# Altium integrated library Lattice Semiconductor ispMACH 4000ZE.IntLib: 56 symbols (part 2 of 3)
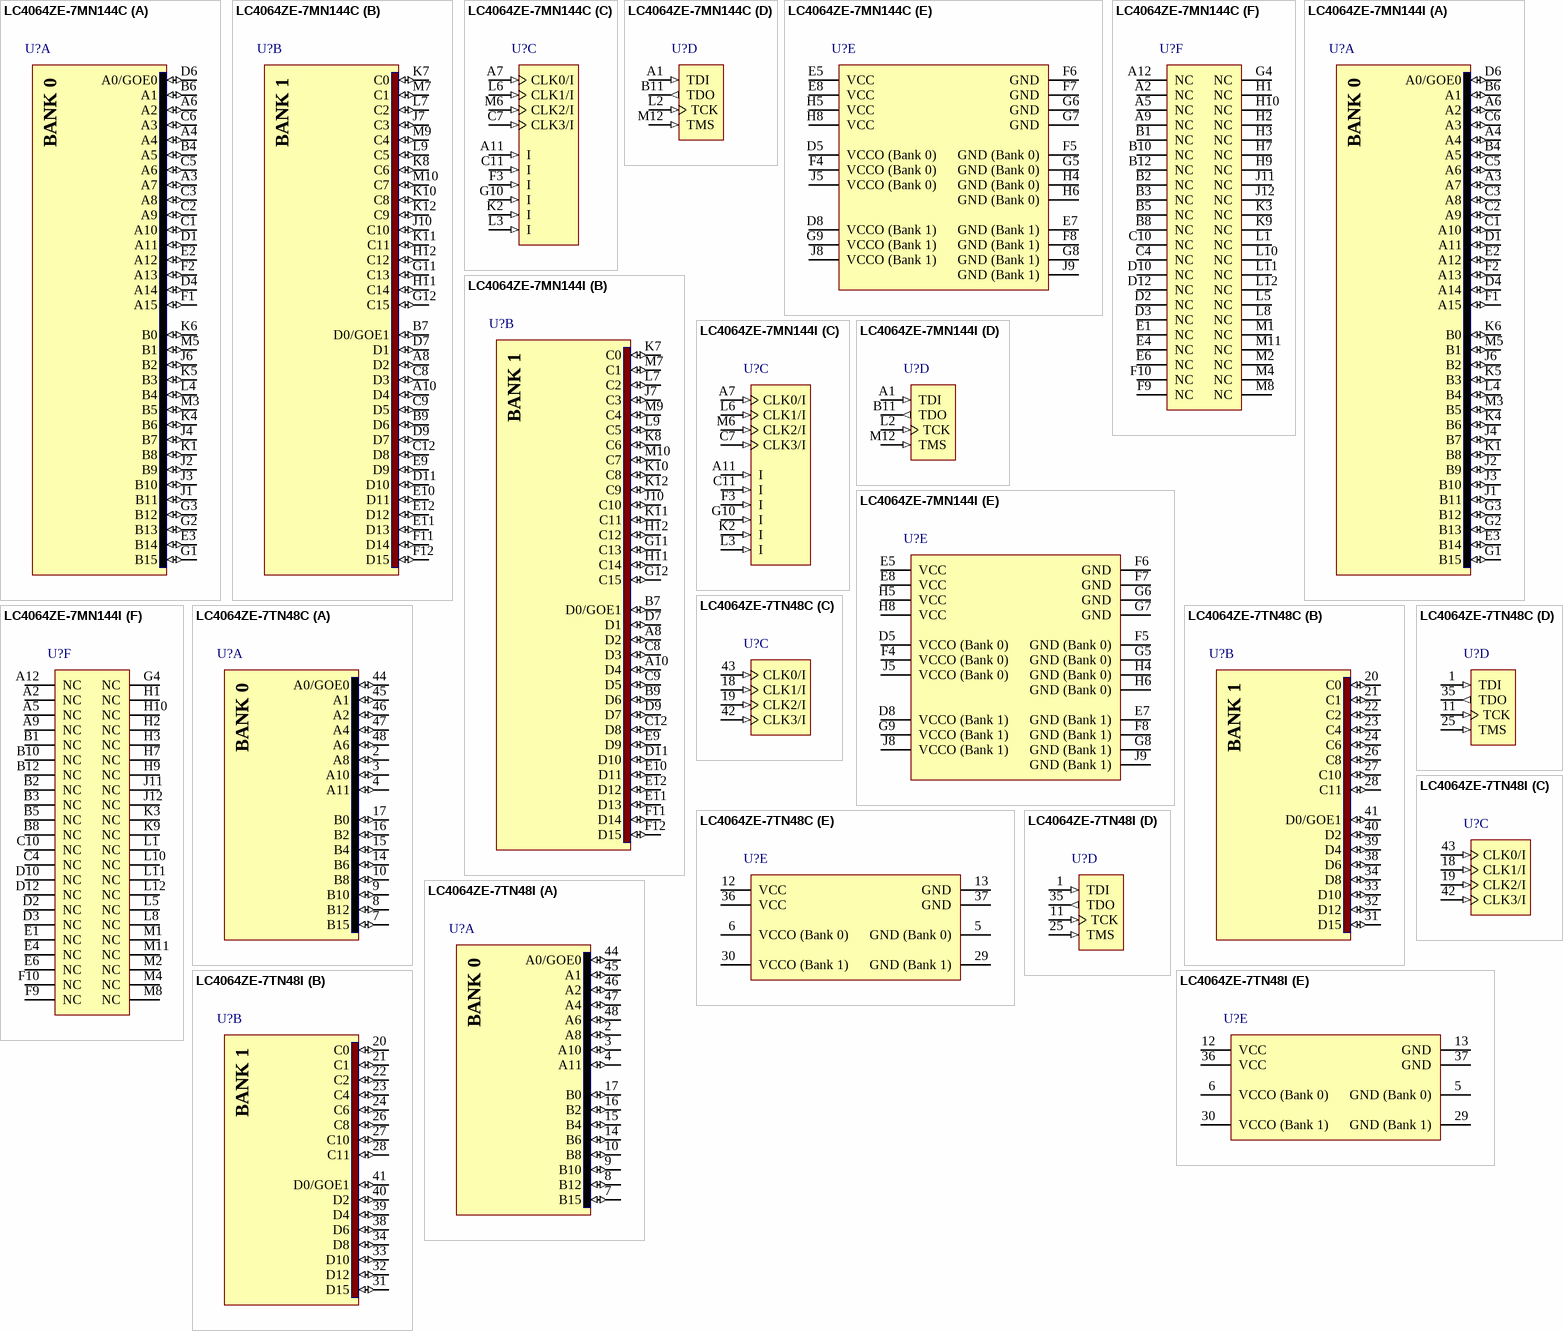
[diagram p15: symbols LC4064ZE-7MN144C to LC4064ZE-7TN48I]

## LC4064ZE-7MN144C
designator U?
ispMACH 4000ZE Ultra Low Power PLD, 1.8V, 64 User I/Os, 144-Pin csBGA, 7.5ns, Commercial Grade, Pb-Free; DatasheetVersion: ver01.4, May-2009; PackageVersion: ver02.6, Nov-2010; PackageReference: csBGA144; PackageDescription: 144-Ball Chip Scale Ball Grid Array (csBGA144); ComponentLink1Description: Manufacturer URL; ComponentLink1URL: http://www.latticesemi.com/; ComponentLink2Description: Datasheet; ComponentLink2URL: http://www.latticesemi.com/documents/DS1022.pdf; ComponentLink3Description: Package Specification; ComponentLink3URL: http://www.latticesemi.com/lit/docs/package/pkg.pdf
footprint csBGA144 (BGA, 144-Leads, Body 7x7mm, Pitch 0.5mm)
part A pins: A3 A7 (io), A4 (io), A6 A2 (io), B4 A5 (io), B6 A1 (io), C1 A10 (io), C2 A9 (io), C3 A8 (io), C5 A6 (io), C6 A3 (io), D1 A11 (io), D4 A14 (io), D6 A0/GOE0 (io), E2 A12 (io), E3 B14 (io), F1 A15 (io), F2 A13 (io), G1 B15 (io), G2 B13 (io), G3 B12 (io), J1 B11 (io), J2 B9 (io), J3 B10 (io), J4 B7 (io), J6 B2 (io), K1 B8 (io), K4 B6 (io), K5 B3 (io), K6 B0 (io), L4 B4 (io), M3 B5 (io), M5 B1 (io)
part B pins: A8 D2 (io), A10 D4 (io), B7 D0/GOE1 (io), B9 D6 (io), C8 D3 (io), C9 D5 (io), C12 D8 (io), D7 D1 (io), D9 D7 (io), D11 D10 (io), E9 D9 (io), E10 D11 (io), E11 D13 (io), E12 D12 (io), F11 D14 (io), F12 D15 (io), G11 C13 (io), G12 C15 (io), H11 C14 (io), H12 C12 (io), J7 C3 (io), J10 C10 (io), K7 C0 (io), K8 C6 (io), K10 C8 (io), K11 C11 (io), K12 C9 (io), L7 C2 (io), L9 C5 (io), M7 C1 (io), M9 C4 (io), M10 C7 (io)
part C pins: A7 CLK0/I (in), A11 I (in), C7 CLK3/I (in), C11 I (in), F3 I (in), G10 I (in), K2 I (in), L3 I (in), L6 CLK1/I (in), M6 CLK2/I (in)
part D pins: A1 TDI (in), B11 TDO (out), L2 TCK (in), M12 TMS (in)
part E pins: D5 VCCO (Bank 0) (power), D8 VCCO (Bank 1) (power), E5 VCC (power), E7 GND (Bank 1) (power), E8 VCC (power), F4 VCCO (Bank 0) (power), F5 GND (Bank 0) (power), F6 GND (power), F7 GND (power), F8 GND (Bank 1) (power), G5 GND (Bank 0) (power), G6 GND (power), G7 GND (power), G8 GND (Bank 1) (power), G9 VCCO (Bank 1) (power), H4 GND (Bank 0) (power), H5 VCC (power), H6 GND (Bank 0) (power), H8 VCC (power), J5 VCCO (Bank 0) (power), J8 VCCO (Bank 1) (power), J9 GND (Bank 1) (power)
part F pins: A2 NC, A5 NC, A9 NC, A12 NC, B1 NC, B2 NC, B3 NC, B5 NC, B8 NC, B10 NC, B12 NC, C4 NC, C10 NC, D2 NC, D3 NC, D10 NC, D12 NC, E1 NC, E4 NC, E6 NC, F9 NC, F10 NC, G4 NC, H1 NC, H2 NC, H3 NC, H7 NC, H9 NC, H10 NC, J11 NC, J12 NC, K3 NC, K9 NC, L1 NC, L5 NC, L8 NC, L10 NC, L11 NC, L12 NC, M1 NC, M2 NC, M4 NC, M8 NC, M11 NC
part A text: BANK 0
part B text: BANK 1

## LC4064ZE-7MN144I
designator U?
ispMACH 4000ZE Ultra Low Power PLD, 1.8V, 64 User I/Os, 144-Pin csBGA, 7.5ns, Industrial Grade, Pb-Free; DatasheetVersion: ver01.4, May-2009; PackageVersion: ver02.6, Nov-2010; PackageReference: csBGA144; PackageDescription: 144-Ball Chip Scale Ball Grid Array (csBGA144); ComponentLink1Description: Manufacturer URL; ComponentLink1URL: http://www.latticesemi.com/; ComponentLink2Description: Datasheet; ComponentLink2URL: http://www.latticesemi.com/documents/DS1022.pdf; ComponentLink3Description: Package Specification; ComponentLink3URL: http://www.latticesemi.com/lit/docs/package/pkg.pdf
footprint csBGA144 (BGA, 144-Leads, Body 7x7mm, Pitch 0.5mm)
part A pins: A3 A7 (io), A4 (io), A6 A2 (io), B4 A5 (io), B6 A1 (io), C1 A10 (io), C2 A9 (io), C3 A8 (io), C5 A6 (io), C6 A3 (io), D1 A11 (io), D4 A14 (io), D6 A0/GOE0 (io), E2 A12 (io), E3 B14 (io), F1 A15 (io), F2 A13 (io), G1 B15 (io), G2 B13 (io), G3 B12 (io), J1 B11 (io), J2 B9 (io), J3 B10 (io), J4 B7 (io), J6 B2 (io), K1 B8 (io), K4 B6 (io), K5 B3 (io), K6 B0 (io), L4 B4 (io), M3 B5 (io), M5 B1 (io)
part B pins: A8 D2 (io), A10 D4 (io), B7 D0/GOE1 (io), B9 D6 (io), C8 D3 (io), C9 D5 (io), C12 D8 (io), D7 D1 (io), D9 D7 (io), D11 D10 (io), E9 D9 (io), E10 D11 (io), E11 D13 (io), E12 D12 (io), F11 D14 (io), F12 D15 (io), G11 C13 (io), G12 C15 (io), H11 C14 (io), H12 C12 (io), J7 C3 (io), J10 C10 (io), K7 C0 (io), K8 C6 (io), K10 C8 (io), K11 C11 (io), K12 C9 (io), L7 C2 (io), L9 C5 (io), M7 C1 (io), M9 C4 (io), M10 C7 (io)
part C pins: A7 CLK0/I (in), A11 I (in), C7 CLK3/I (in), C11 I (in), F3 I (in), G10 I (in), K2 I (in), L3 I (in), L6 CLK1/I (in), M6 CLK2/I (in)
part D pins: A1 TDI (in), B11 TDO (out), L2 TCK (in), M12 TMS (in)
part E pins: D5 VCCO (Bank 0) (power), D8 VCCO (Bank 1) (power), E5 VCC (power), E7 GND (Bank 1) (power), E8 VCC (power), F4 VCCO (Bank 0) (power), F5 GND (Bank 0) (power), F6 GND (power), F7 GND (power), F8 GND (Bank 1) (power), G5 GND (Bank 0) (power), G6 GND (power), G7 GND (power), G8 GND (Bank 1) (power), G9 VCCO (Bank 1) (power), H4 GND (Bank 0) (power), H5 VCC (power), H6 GND (Bank 0) (power), H8 VCC (power), J5 VCCO (Bank 0) (power), J8 VCCO (Bank 1) (power), J9 GND (Bank 1) (power)
part F pins: A2 NC, A5 NC, A9 NC, A12 NC, B1 NC, B2 NC, B3 NC, B5 NC, B8 NC, B10 NC, B12 NC, C4 NC, C10 NC, D2 NC, D3 NC, D10 NC, D12 NC, E1 NC, E4 NC, E6 NC, F9 NC, F10 NC, G4 NC, H1 NC, H2 NC, H3 NC, H7 NC, H9 NC, H10 NC, J11 NC, J12 NC, K3 NC, K9 NC, L1 NC, L5 NC, L8 NC, L10 NC, L11 NC, L12 NC, M1 NC, M2 NC, M4 NC, M8 NC, M11 NC
part A text: BANK 0
part B text: BANK 1

## LC4064ZE-7TN48C
designator U?
ispMACH 4000ZE Ultra Low Power PLD, 1.8V, 32 User I/Os, 48-Pin TQFP, 7.5ns, Commercial Grade, Pb-Free; DatasheetVersion: ver01.4, May-2009; PackageVersion: ver02.6, Nov-2010; PackageReference: TQFP48(1mm); PackageDescription: 48-Pin Thin Quad Flat Pack 1.0 mm Thick (TQFP48); ComponentLink1Description: Manufacturer URL; ComponentLink1URL: http://www.latticesemi.com/; ComponentLink2Description: Datasheet; ComponentLink2URL: http://www.latticesemi.com/documents/DS1022.pdf; ComponentLink3Description: Package Specification; ComponentLink3URL: http://www.latticesemi.com/lit/docs/package/pkg.pdf
footprint TQFP48(1mm)_N (Thin QFP, 48-Leads, Body 7x7mm, Pitch 0.5mm, IPC Medium Density)
footprint TQFP48(1mm)_L (Thin QFP, 48-Leads, Body 7x7mm, Pitch 0.5mm, IPC High Density)
footprint TQFP48(1mm)_M (Thin QFP, 48-Leads, Body 7x7mm, Pitch 0.5mm, IPC Low Density)
part A pins: 2 A8 (io), 3 A10 (io), 4 A11 (io), 7 B15 (io), 8 B12 (io), 9 B10 (io), 10 B8 (io), 14 B6 (io), 15 B4 (io), 16 B2 (io), 17 B0 (io), 44 A0/GOE0 (io), 45 A1 (io), 46 A2 (io), 47 A4 (io), 48 A6 (io)
part B pins: 20 C0 (io), 21 C1 (io), 22 C2 (io), 23 C4 (io), 24 C6 (io), 26 C8 (io), 27 C10 (io), 28 C11 (io), 31 D15 (io), 32 D12 (io), 33 D10 (io), 34 D8 (io), 38 D6 (io), 39 D4 (io), 40 D2 (io), 41 D0/GOE1 (io)
part C pins: 18 CLK1/I (in), 19 CLK2/I (in), 42 CLK3/I (in), 43 CLK0/I (in)
part D pins: 1 TDI (in), 11 TCK (in), 25 TMS (in), 35 TDO (out)
part E pins: 5 GND (Bank 0) (power), 6 VCCO (Bank 0) (power), 12 VCC (power), 13 GND (power), 29 GND (Bank 1) (power), 30 VCCO (Bank 1) (power), 36 VCC (power), 37 GND (power)
part A text: BANK 0
part B text: BANK 1

## LC4064ZE-7TN48I
designator U?
ispMACH 4000ZE Ultra Low Power PLD, 1.8V, 32 User I/Os, 48-Pin TQFP, 7.5ns, Industrial Grade, Pb-Free; DatasheetVersion: ver01.4, May-2009; PackageVersion: ver02.6, Nov-2010; PackageReference: TQFP48(1mm); PackageDescription: 48-Pin Thin Quad Flat Pack 1.0 mm Thick (TQFP48); ComponentLink1Description: Manufacturer URL; ComponentLink1URL: http://www.latticesemi.com/; ComponentLink2Description: Datasheet; ComponentLink2URL: http://www.latticesemi.com/documents/DS1022.pdf; ComponentLink3Description: Package Specification; ComponentLink3URL: http://www.latticesemi.com/lit/docs/package/pkg.pdf
footprint TQFP48(1mm)_N (Thin QFP, 48-Leads, Body 7x7mm, Pitch 0.5mm, IPC Medium Density)
footprint TQFP48(1mm)_L (Thin QFP, 48-Leads, Body 7x7mm, Pitch 0.5mm, IPC High Density)
footprint TQFP48(1mm)_M (Thin QFP, 48-Leads, Body 7x7mm, Pitch 0.5mm, IPC Low Density)
part A pins: 2 A8 (io), 3 A10 (io), 4 A11 (io), 7 B15 (io), 8 B12 (io), 9 B10 (io), 10 B8 (io), 14 B6 (io), 15 B4 (io), 16 B2 (io), 17 B0 (io), 44 A0/GOE0 (io), 45 A1 (io), 46 A2 (io), 47 A4 (io), 48 A6 (io)
part B pins: 20 C0 (io), 21 C1 (io), 22 C2 (io), 23 C4 (io), 24 C6 (io), 26 C8 (io), 27 C10 (io), 28 C11 (io), 31 D15 (io), 32 D12 (io), 33 D10 (io), 34 D8 (io), 38 D6 (io), 39 D4 (io), 40 D2 (io), 41 D0/GOE1 (io)
part C pins: 18 CLK1/I (in), 19 CLK2/I (in), 42 CLK3/I (in), 43 CLK0/I (in)
part D pins: 1 TDI (in), 11 TCK (in), 25 TMS (in), 35 TDO (out)
part E pins: 5 GND (Bank 0) (power), 6 VCCO (Bank 0) (power), 12 VCC (power), 13 GND (power), 29 GND (Bank 1) (power), 30 VCCO (Bank 1) (power), 36 VCC (power), 37 GND (power)
part A text: BANK 0
part B text: BANK 1

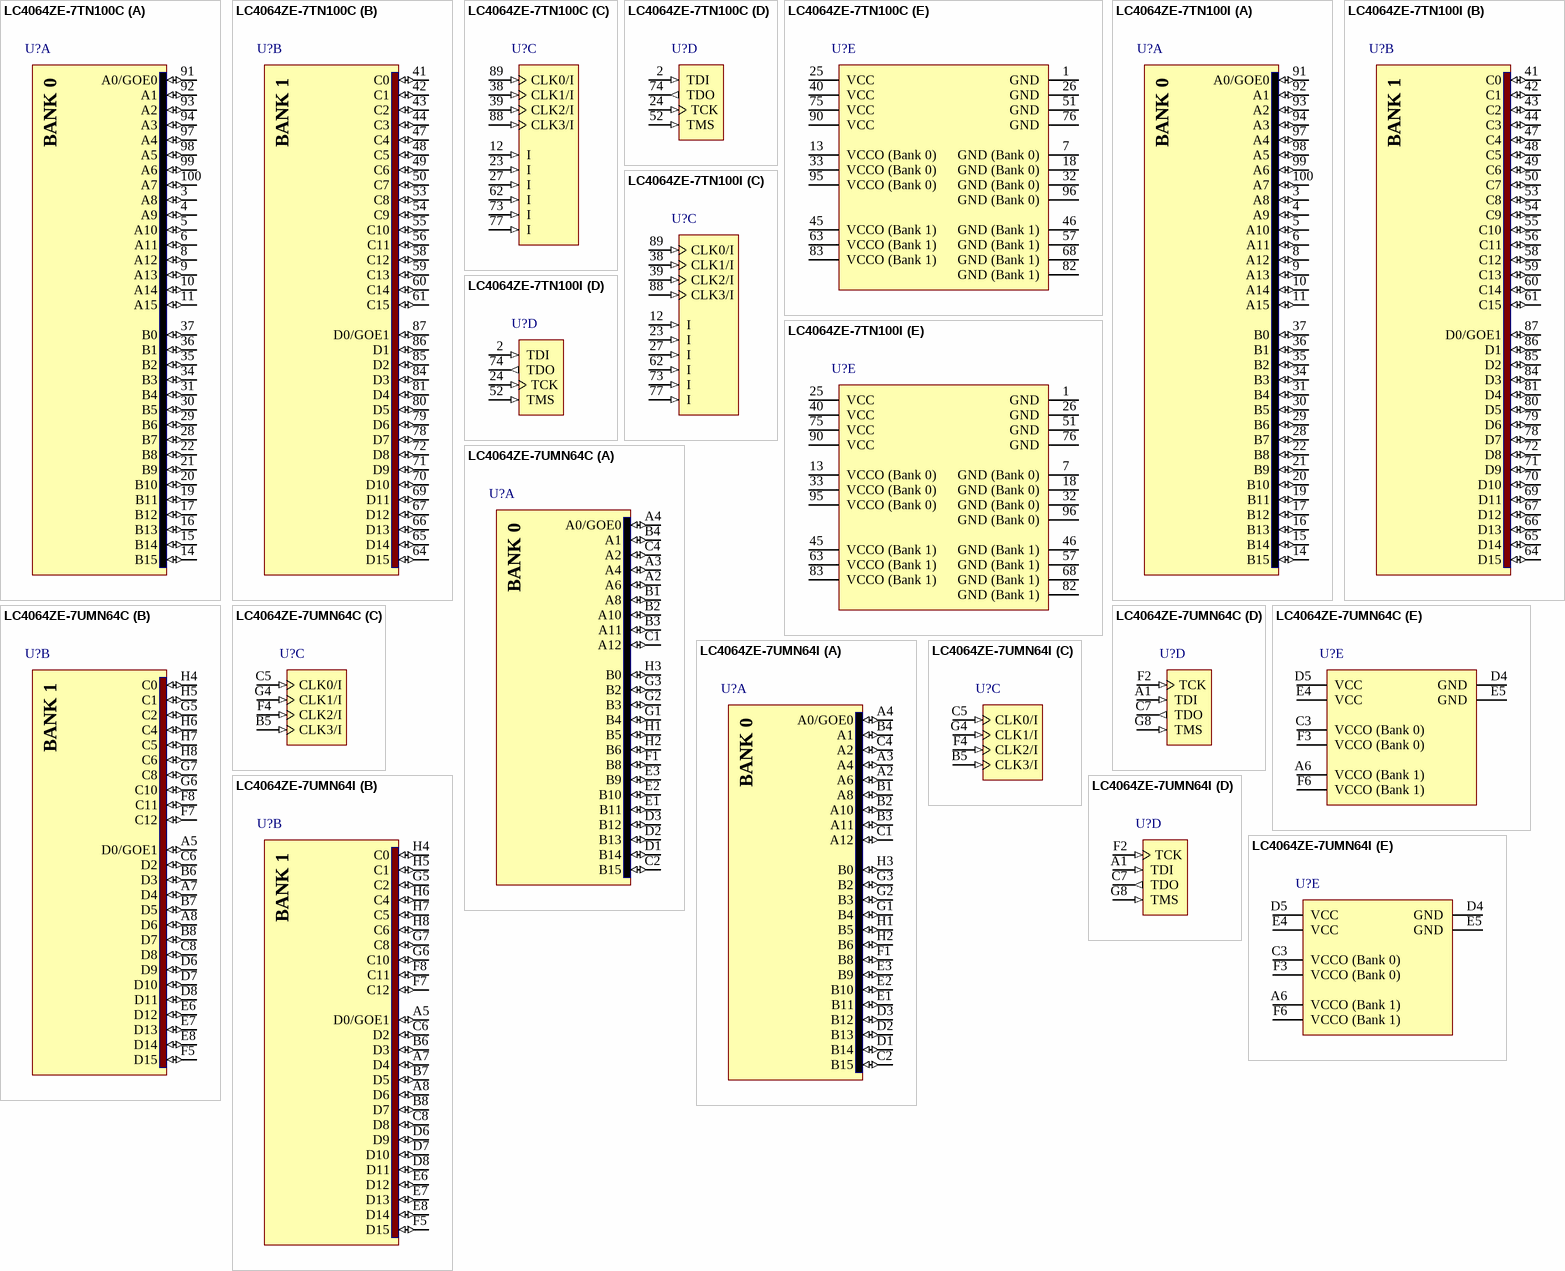
[diagram p6: symbols LC4064ZE-7TN100C to LC4064ZE-7UMN64I]

## LC4064ZE-7TN100C
designator U?
ispMACH 4000ZE Ultra Low Power PLD, 1.8V, 64 User I/Os, 100-Pin TQFP, 7.5ns, Commercial Grade, Pb-Free; DatasheetVersion: ver01.4, May-2009; PackageVersion: ver02.8, Jul-2011; PackageReference: TQFP100; PackageDescription: 100-Pin Thin Quad Flat Pack (TQFP100); Code_JEDEC: MS-026-BED; ComponentLink1Description: Manufacturer URL; ComponentLink1URL: http://www.latticesemi.com/; ComponentLink2Description: Datasheet; ComponentLink2URL: http://www.latticesemi.com/documents/DS1022.pdf; ComponentLink3Description: Package Specification; ComponentLink3URL: http://www.latticesemi.com/lit/docs/package/pkg.pdf
footprint TQFP100_N (Thin QFP, 100-Leads, Body 14x14mm, Pitch 0.5mm, IPC Medium Density)
footprint TQFP100_L (Thin QFP, 100-Leads, Body 14x14mm, Pitch 0.5mm, IPC High Density)
footprint TQFP100_M (Thin QFP, 100-Leads, Body 14x14mm, Pitch 0.5mm, IPC Low Density)
part A pins: 3 A8 (io), 4 A9 (io), 5 A10 (io), 6 A11 (io), 8 A12 (io), 9 A13 (io), 10 A14 (io), 11 A15 (io), 14 B15 (io), 15 B14 (io), 16 B13 (io), 17 B12 (io), 19 B11 (io), 20 B10 (io), 21 B9 (io), 22 B8 (io), 28 B7 (io), 29 B6 (io), 30 B5 (io), 31 B4 (io), 34 B3 (io), 35 B2 (io), 36 B1 (io), 37 B0 (io), 91 A0/GOE0 (io), 92 A1 (io), 93 A2 (io), 94 A3 (io), 97 A4 (io), 98 A5 (io), 99 A6 (io), 100 A7 (io)
part B pins: 41 C0 (io), 42 C1 (io), 43 C2 (io), 44 C3 (io), 47 C4 (io), 48 C5 (io), 49 C6 (io), 50 C7 (io), 53 C8 (io), 54 C9 (io), 55 C10 (io), 56 C11 (io), 58 C12 (io), 59 C13 (io), 60 C14 (io), 61 C15 (io), 64 D15 (io), 65 D14 (io), 66 D13 (io), 67 D12 (io), 69 D11 (io), 70 D10 (io), 71 D9 (io), 72 D8 (io), 78 D7 (io), 79 D6 (io), 80 D5 (io), 81 D4 (io), 84 D3 (io), 85 D2 (io), 86 D1 (io), 87 D0/GOE1 (io)
part C pins: 12 I (in), 23 I (in), 27 I (in), 38 CLK1/I (in), 39 CLK2/I (in), 62 I (in), 73 I (in), 77 I (in), 88 CLK3/I (in), 89 CLK0/I (in)
part D pins: 2 TDI (in), 24 TCK (in), 52 TMS (in), 74 TDO (out)
part E pins: 1 GND (power), 7 GND (Bank 0) (power), 13 VCCO (Bank 0) (power), 18 GND (Bank 0) (power), 25 VCC (power), 26 GND (power), 32 GND (Bank 0) (power), 33 VCCO (Bank 0) (power), 40 VCC (power), 45 VCCO (Bank 1) (power), 46 GND (Bank 1) (power), 51 GND (power), 57 GND (Bank 1) (power), 63 VCCO (Bank 1) (power), 68 GND (Bank 1) (power), 75 VCC (power), 76 GND (power), 82 GND (Bank 1) (power), 83 VCCO (Bank 1) (power), 90 VCC (power), 95 VCCO (Bank 0) (power), 96 GND (Bank 0) (power)
part A text: BANK 0
part B text: BANK 1

## LC4064ZE-7TN100I
designator U?
ispMACH 4000ZE Ultra Low Power PLD, 1.8V, 64 User I/Os, 100-Pin TQFP, 7.5ns, Industrial Grade, Pb-Free; DatasheetVersion: ver01.4, May-2009; PackageVersion: ver02.8, Jul-2011; PackageReference: TQFP100; PackageDescription: 100-Pin Thin Quad Flat Pack (TQFP100); Code_JEDEC: MS-026-BED; ComponentLink1Description: Manufacturer URL; ComponentLink1URL: http://www.latticesemi.com/; ComponentLink2Description: Datasheet; ComponentLink2URL: http://www.latticesemi.com/documents/DS1022.pdf; ComponentLink3Description: Package Specification; ComponentLink3URL: http://www.latticesemi.com/lit/docs/package/pkg.pdf
footprint TQFP100_N (Thin QFP, 100-Leads, Body 14x14mm, Pitch 0.5mm, IPC Medium Density)
footprint TQFP100_L (Thin QFP, 100-Leads, Body 14x14mm, Pitch 0.5mm, IPC High Density)
footprint TQFP100_M (Thin QFP, 100-Leads, Body 14x14mm, Pitch 0.5mm, IPC Low Density)
part A pins: 3 A8 (io), 4 A9 (io), 5 A10 (io), 6 A11 (io), 8 A12 (io), 9 A13 (io), 10 A14 (io), 11 A15 (io), 14 B15 (io), 15 B14 (io), 16 B13 (io), 17 B12 (io), 19 B11 (io), 20 B10 (io), 21 B9 (io), 22 B8 (io), 28 B7 (io), 29 B6 (io), 30 B5 (io), 31 B4 (io), 34 B3 (io), 35 B2 (io), 36 B1 (io), 37 B0 (io), 91 A0/GOE0 (io), 92 A1 (io), 93 A2 (io), 94 A3 (io), 97 A4 (io), 98 A5 (io), 99 A6 (io), 100 A7 (io)
part B pins: 41 C0 (io), 42 C1 (io), 43 C2 (io), 44 C3 (io), 47 C4 (io), 48 C5 (io), 49 C6 (io), 50 C7 (io), 53 C8 (io), 54 C9 (io), 55 C10 (io), 56 C11 (io), 58 C12 (io), 59 C13 (io), 60 C14 (io), 61 C15 (io), 64 D15 (io), 65 D14 (io), 66 D13 (io), 67 D12 (io), 69 D11 (io), 70 D10 (io), 71 D9 (io), 72 D8 (io), 78 D7 (io), 79 D6 (io), 80 D5 (io), 81 D4 (io), 84 D3 (io), 85 D2 (io), 86 D1 (io), 87 D0/GOE1 (io)
part C pins: 12 I (in), 23 I (in), 27 I (in), 38 CLK1/I (in), 39 CLK2/I (in), 62 I (in), 73 I (in), 77 I (in), 88 CLK3/I (in), 89 CLK0/I (in)
part D pins: 2 TDI (in), 24 TCK (in), 52 TMS (in), 74 TDO (out)
part E pins: 1 GND (power), 7 GND (Bank 0) (power), 13 VCCO (Bank 0) (power), 18 GND (Bank 0) (power), 25 VCC (power), 26 GND (power), 32 GND (Bank 0) (power), 33 VCCO (Bank 0) (power), 40 VCC (power), 45 VCCO (Bank 1) (power), 46 GND (Bank 1) (power), 51 GND (power), 57 GND (Bank 1) (power), 63 VCCO (Bank 1) (power), 68 GND (Bank 1) (power), 75 VCC (power), 76 GND (power), 82 GND (Bank 1) (power), 83 VCCO (Bank 1) (power), 90 VCC (power), 95 VCCO (Bank 0) (power), 96 GND (Bank 0) (power)
part A text: BANK 0
part B text: BANK 1

## LC4064ZE-7UMN64C
designator U?
ispMACH 4000ZE Ultra Low Power PLD, 1.8V, 48 User I/Os, 64-Pin ucBGA, 7.5ns, Commercial Grade, Pb-Free; DatasheetVersion: ver01.4, May-2009; PackageVersion: ver02.8, Jul-2011; PackageReference: ucBGA64; PackageDescription: 64-Ball ucBGA Package, 4 x 4 mm Body, 0.4 mm Pitch; ComponentLink1Description: Manufacturer URL; ComponentLink1URL: http://www.latticesemi.com/; ComponentLink2Description: Datasheet; ComponentLink2URL: http://www.latticesemi.com/documents/DS1022.pdf; ComponentLink3Description: Package Specification; ComponentLink3URL: http://www.latticesemi.com/lit/docs/package/pkg.pdf
footprint ucBGA64 (BGA, 64-Leads, Body 4x4mm, Pitch 0.4mm, Nominal Pad Dia. 0.2mm, Lattice Recommended)
part A pins: A2 A6 (io), A3 A4 (io), A4 A0/GOE0 (io), B1 A8 (io), B2 A10 (io), B3 A11 (io), B4 A1 (io), C1 A12 (io), C2 B15 (io), C4 A2 (io), D1 B14 (io), D2 B13 (io), D3 B12 (io), E1 B11 (io), E2 B10 (io), E3 B9 (io), F1 B8 (io), G1 B4 (io), G2 B3 (io), G3 B2 (io), H1 B5 (io), H2 B6 (io), H3 B0 (io)
part B pins: A5 D0/GOE1 (io), A7 D4 (io), A8 D6 (io), B6 D3 (io), B7 D5 (io), B8 D7 (io), C6 D2 (io), C8 D8 (io), D6 D9 (io), D7 D10 (io), D8 D11 (io), E6 D12 (io), E7 D13 (io), E8 D14 (io), F5 D15 (io), F7 C12 (io), F8 C11 (io), G5 C2 (io), G6 C10 (io), G7 C8 (io), H4 C0 (io), H5 C1 (io), H6 C4 (io), H7 C5 (io), H8 C6 (io)
part C pins: B5 CLK3/I (in), C5 CLK0/I (in), F4 CLK2/I (in), G4 CLK1/I (in)
part D pins: A1 TDI (in), C7 TDO (out), F2 TCK (in), G8 TMS (in)
part E pins: A6 VCCO (Bank 1) (power), C3 VCCO (Bank 0) (power), D4 GND (power), D5 VCC (power), E4 VCC (power), E5 GND (power), F3 VCCO (Bank 0) (power), F6 VCCO (Bank 1) (power)
part A text: BANK 0
part B text: BANK 1

## LC4064ZE-7UMN64I
designator U?
ispMACH 4000ZE Ultra Low Power PLD, 1.8V, 48 User I/Os, 64-Pin ucBGA, 7.5ns, Industrial Grade, Pb-Free; DatasheetVersion: ver01.4, May-2009; PackageVersion: ver02.8, Jul-2011; PackageReference: ucBGA64; PackageDescription: 64-Ball ucBGA Package, 4 x 4 mm Body, 0.4 mm Pitch; ComponentLink1Description: Manufacturer URL; ComponentLink1URL: http://www.latticesemi.com/; ComponentLink2Description: Datasheet; ComponentLink2URL: http://www.latticesemi.com/documents/DS1022.pdf; ComponentLink3Description: Package Specification; ComponentLink3URL: http://www.latticesemi.com/lit/docs/package/pkg.pdf
footprint ucBGA64 (BGA, 64-Leads, Body 4x4mm, Pitch 0.4mm, Nominal Pad Dia. 0.2mm, Lattice Recommended)
part A pins: A2 A6 (io), A3 A4 (io), A4 A0/GOE0 (io), B1 A8 (io), B2 A10 (io), B3 A11 (io), B4 A1 (io), C1 A12 (io), C2 B15 (io), C4 A2 (io), D1 B14 (io), D2 B13 (io), D3 B12 (io), E1 B11 (io), E2 B10 (io), E3 B9 (io), F1 B8 (io), G1 B4 (io), G2 B3 (io), G3 B2 (io), H1 B5 (io), H2 B6 (io), H3 B0 (io)
part B pins: A5 D0/GOE1 (io), A7 D4 (io), A8 D6 (io), B6 D3 (io), B7 D5 (io), B8 D7 (io), C6 D2 (io), C8 D8 (io), D6 D9 (io), D7 D10 (io), D8 D11 (io), E6 D12 (io), E7 D13 (io), E8 D14 (io), F5 D15 (io), F7 C12 (io), F8 C11 (io), G5 C2 (io), G6 C10 (io), G7 C8 (io), H4 C0 (io), H5 C1 (io), H6 C4 (io), H7 C5 (io), H8 C6 (io)
part C pins: B5 CLK3/I (in), C5 CLK0/I (in), F4 CLK2/I (in), G4 CLK1/I (in)
part D pins: A1 TDI (in), C7 TDO (out), F2 TCK (in), G8 TMS (in)
part E pins: A6 VCCO (Bank 1) (power), C3 VCCO (Bank 0) (power), D4 GND (power), D5 VCC (power), E4 VCC (power), E5 GND (power), F3 VCCO (Bank 0) (power), F6 VCCO (Bank 1) (power)
part A text: BANK 0
part B text: BANK 1

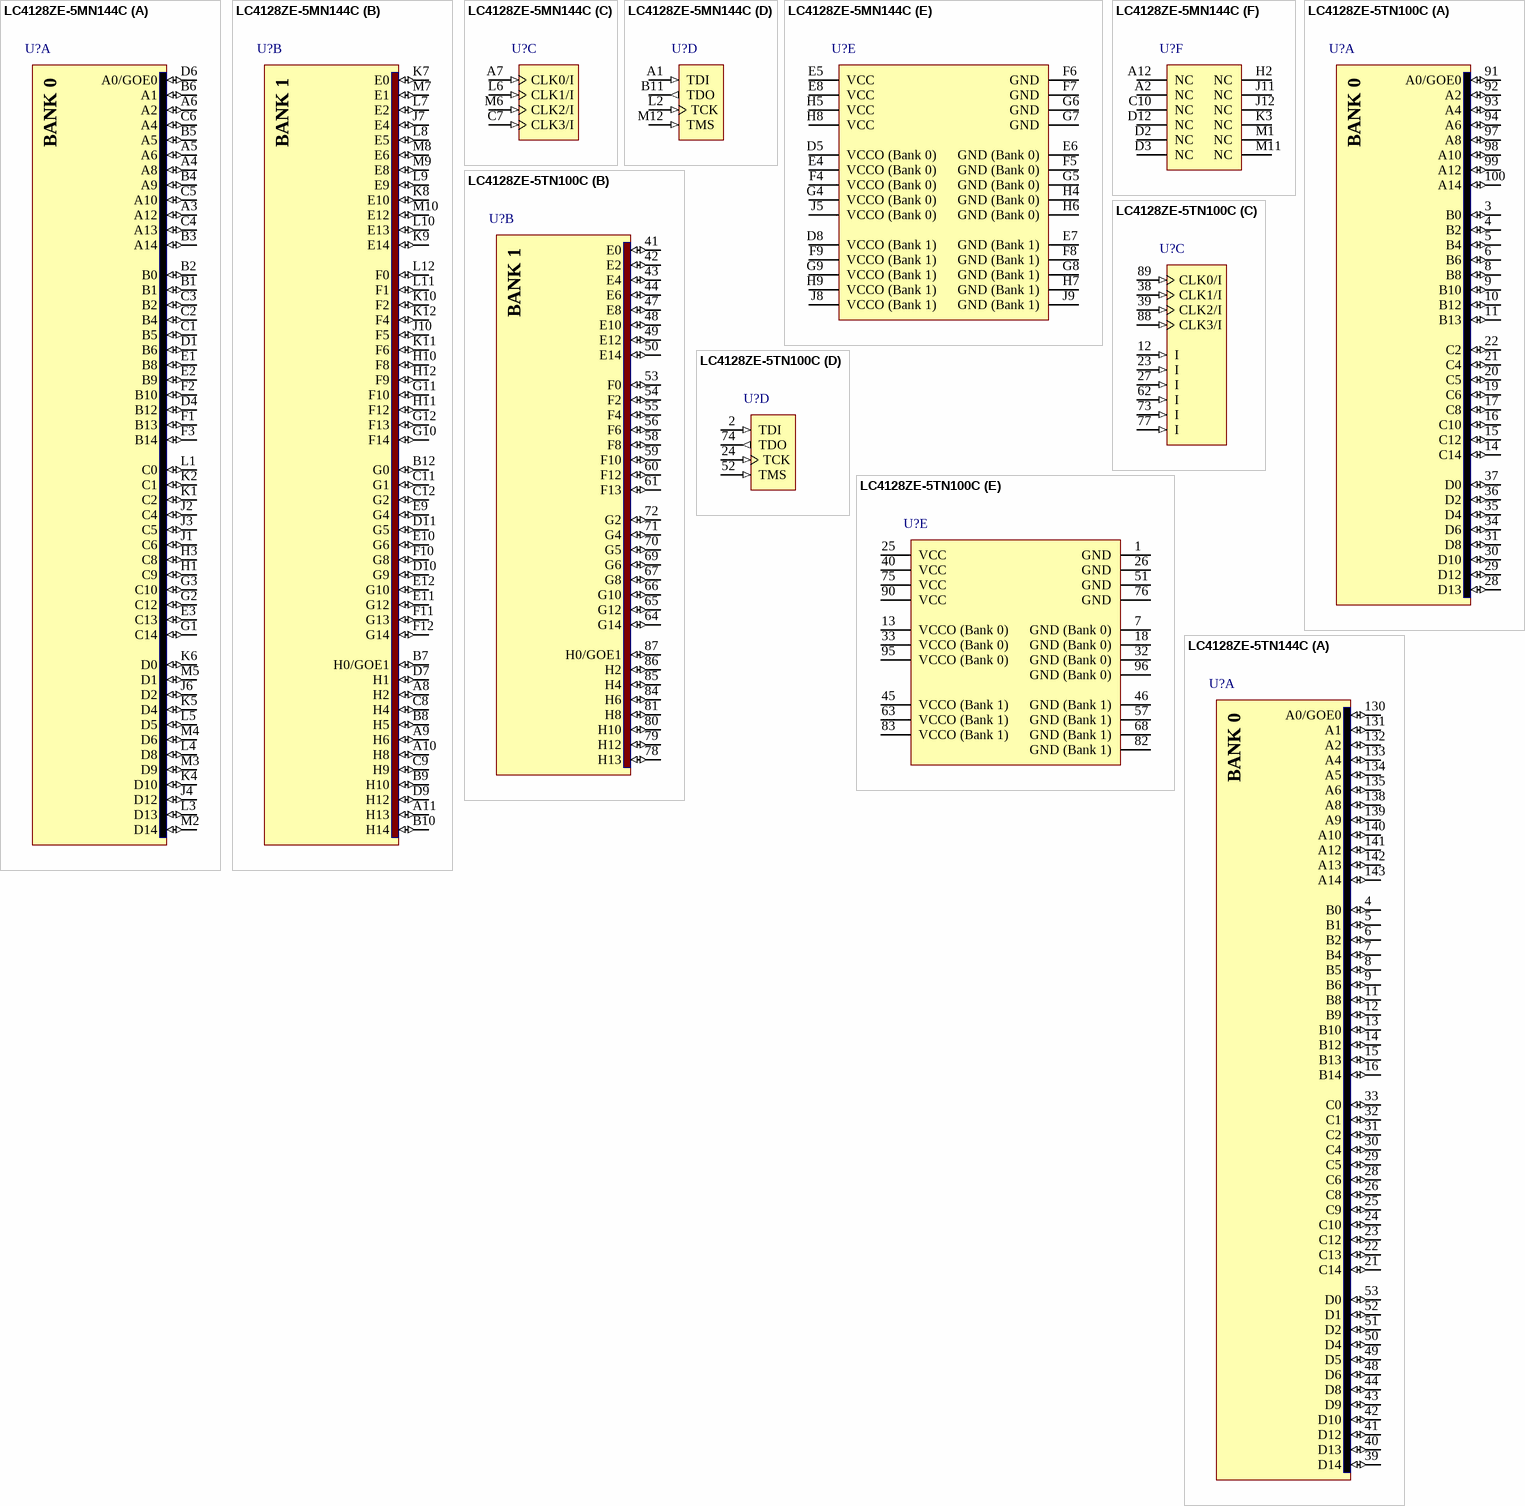
[diagram p7: symbols LC4128ZE-5MN144C to LC4128ZE-5TN144C]

## LC4128ZE-5MN144C
designator U?
ispMACH 4000ZE Ultra Low Power PLD, 1.8V, 96 User I/Os, 144-Pin csBGA, 5.8ns, Commercial Grade, Pb-Free; DatasheetVersion: ver01.4, May-2009; PackageVersion: ver02.6, Nov-2010; PackageReference: csBGA144; PackageDescription: 144-Ball Chip Scale Ball Grid Array (csBGA144); ComponentLink1Description: Manufacturer URL; ComponentLink1URL: http://www.latticesemi.com/; ComponentLink2Description: Datasheet; ComponentLink2URL: http://www.latticesemi.com/documents/DS1022.pdf; ComponentLink3Description: Package Specification; ComponentLink3URL: http://www.latticesemi.com/lit/docs/package/pkg.pdf
footprint csBGA144 (BGA, 144-Leads, Body 7x7mm, Pitch 0.5mm)
part A pins: A3 A12 (io), A4 A8 (io), A5 A6 (io), A6 A2 (io), B1 (io), B2 B0 (io), B3 A14 (io), B4 A9 (io), B5 A5 (io), B6 A1 (io), C1 B5 (io), C2 B4 (io), C3 B2 (io), C4 A13 (io), C5 A10 (io), C6 A4 (io), D1 B6 (io), D4 B12 (io), D6 A0/GOE0 (io), E1 B8 (io), E2 B9 (io), E3 C13 (io), F1 B13 (io), F2 B10 (io), F3 B14 (io), G1 C14 (io), G2 C12 (io), G3 C10 (io), H1 C9 (io), H3 C8 (io), J1 C6 (io), J2 C4 (io), J3 C5 (io), J4 D12 (io), J6 D2 (io), K1 C2 (io), K2 C1 (io), K4 D10 (io), K5 D4 (io), K6 D0 (io), L1 C0 (io), L3 D13 (io), L4 D8 (io), L5 D5 (io), M2 D14 (io), M3 D9 (io), M4 D6 (io), M5 D1 (io)
part B pins: A8 H2 (io), A9 H6 (io), A10 H8 (io), A11 H13 (io), B7 H0/GOE1 (io), B8 H5 (io), B9 H10 (io), B10 H14 (io), B12 G0 (io), C8 H4 (io), C9 H9 (io), C11 G1 (io), C12 G2 (io), D7 H1 (io), D9 H12 (io), D10 G9 (io), D11 G5 (io), E9 G4 (io), E10 G6 (io), E11 G12 (io), E12 G10 (io), F10 G8 (io), F11 G13 (io), F12 G14 (io), G10 F14 (io), G11 F10 (io), G12 F13 (io), H10 F8 (io), H11 F12 (io), H12 F9 (io), J7 E4 (io), J10 F5 (io), K7 E0 (io), K8 E10 (io), K9 E14 (io), K10 F2 (io), K11 F6 (io), K12 F4 (io), L7 E2 (io), L8 E5 (io), L9 E9 (io), L10 E13 (io), L11 F1 (io), L12 F0 (io), M7 E1 (io), M8 E6 (io), M9 E8 (io), M10 E12 (io)
part C pins: A7 CLK0/I (in), C7 CLK3/I (in), L6 CLK1/I (in), M6 CLK2/I (in)
part D pins: A1 TDI (in), B11 TDO (out), L2 TCK (in), M12 TMS (in)
part E pins: D5 VCCO (Bank 0) (power), D8 VCCO (Bank 1) (power), E4 VCCO (Bank 0) (power), E5 VCC (power), E6 GND (Bank 0) (power), E7 GND (Bank 1) (power), E8 VCC (power), F4 VCCO (Bank 0) (power), F5 GND (Bank 0) (power), F6 GND (power), F7 GND (power), F8 GND (Bank 1) (power), F9 VCCO (Bank 1) (power), G4 VCCO (Bank 0) (power), G5 GND (Bank 0) (power), G6 GND (power), G7 GND (power), G8 GND (Bank 1) (power), G9 VCCO (Bank 1) (power), H4 GND (Bank 0) (power), H5 VCC (power), H6 GND (Bank 0) (power), H7 GND (Bank 1) (power), H8 VCC (power), H9 VCCO (Bank 1) (power), J5 VCCO (Bank 0) (power), J8 VCCO (Bank 1) (power), J9 GND (Bank 1) (power)
part F pins: A2 NC, A12 NC, C10 NC, D2 NC, D3 NC, D12 NC, H2 NC, J11 NC, J12 NC, K3 NC, M1 NC, M11 NC
part A text: BANK 0
part B text: BANK 1

## LC4128ZE-5TN100C
designator U?
ispMACH 4000ZE Ultra Low Power PLD, 1.8V, 64 User I/Os, 100-Pin TQFP, 5.8ns, Commercial Grade, Pb-Free; DatasheetVersion: ver01.4, May-2009; PackageVersion: ver02.8, Jul-2011; PackageReference: TQFP100; PackageDescription: 100-Pin Thin Quad Flat Pack (TQFP100); Code_JEDEC: MS-026-BED; ComponentLink1Description: Manufacturer URL; ComponentLink1URL: http://www.latticesemi.com/; ComponentLink2Description: Datasheet; ComponentLink2URL: http://www.latticesemi.com/documents/DS1022.pdf; ComponentLink3Description: Package Specification; ComponentLink3URL: http://www.latticesemi.com/lit/docs/package/pkg.pdf
footprint TQFP100_N (Thin QFP, 100-Leads, Body 14x14mm, Pitch 0.5mm, IPC Medium Density)
footprint TQFP100_L (Thin QFP, 100-Leads, Body 14x14mm, Pitch 0.5mm, IPC High Density)
footprint TQFP100_M (Thin QFP, 100-Leads, Body 14x14mm, Pitch 0.5mm, IPC Low Density)
part A pins: 3 B0 (io), 4 B2 (io), 5 B4 (io), 6 B6 (io), 8 B8 (io), 9 B10 (io), 10 B12 (io), 11 B13 (io), 14 C14 (io), 15 C12 (io), 16 C10 (io), 17 C8 (io), 19 C6 (io), 20 C5 (io), 21 C4 (io), 22 C2 (io), 28 D13 (io), 29 D12 (io), 30 D10 (io), 31 D8 (io), 34 D6 (io), 35 D4 (io), 36 D2 (io), 37 D0 (io), 91 A0/GOE0 (io), 92 A2 (io), 93 A4 (io), 94 A6 (io), 97 A8 (io), 98 A10 (io), 99 A12 (io), 100 A14 (io)
part B pins: 41 E0 (io), 42 E2 (io), 43 E4 (io), 44 E6 (io), 47 E8 (io), 48 E10 (io), 49 E12 (io), 50 E14 (io), 53 F0 (io), 54 F2 (io), 55 F4 (io), 56 F6 (io), 58 F8 (io), 59 F10 (io), 60 F12 (io), 61 F13 (io), 64 G14 (io), 65 G12 (io), 66 G10 (io), 67 G8 (io), 69 G6 (io), 70 G5 (io), 71 G4 (io), 72 G2 (io), 78 H13 (io), 79 H12 (io), 80 H10 (io), 81 H8 (io), 84 H6 (io), 85 H4 (io), 86 H2 (io), 87 H0/GOE1 (io)
part C pins: 12 I (in), 23 I (in), 27 I (in), 38 CLK1/I (in), 39 CLK2/I (in), 62 I (in), 73 I (in), 77 I (in), 88 CLK3/I (in), 89 CLK0/I (in)
part D pins: 2 TDI (in), 24 TCK (in), 52 TMS (in), 74 TDO (out)
part E pins: 1 GND (power), 7 GND (Bank 0) (power), 13 VCCO (Bank 0) (power), 18 GND (Bank 0) (power), 25 VCC (power), 26 GND (power), 32 GND (Bank 0) (power), 33 VCCO (Bank 0) (power), 40 VCC (power), 45 VCCO (Bank 1) (power), 46 GND (Bank 1) (power), 51 GND (power), 57 GND (Bank 1) (power), 63 VCCO (Bank 1) (power), 68 GND (Bank 1) (power), 75 VCC (power), 76 GND (power), 82 GND (Bank 1) (power), 83 VCCO (Bank 1) (power), 90 VCC (power), 95 VCCO (Bank 0) (power), 96 GND (Bank 0) (power)
part A text: BANK 0
part B text: BANK 1

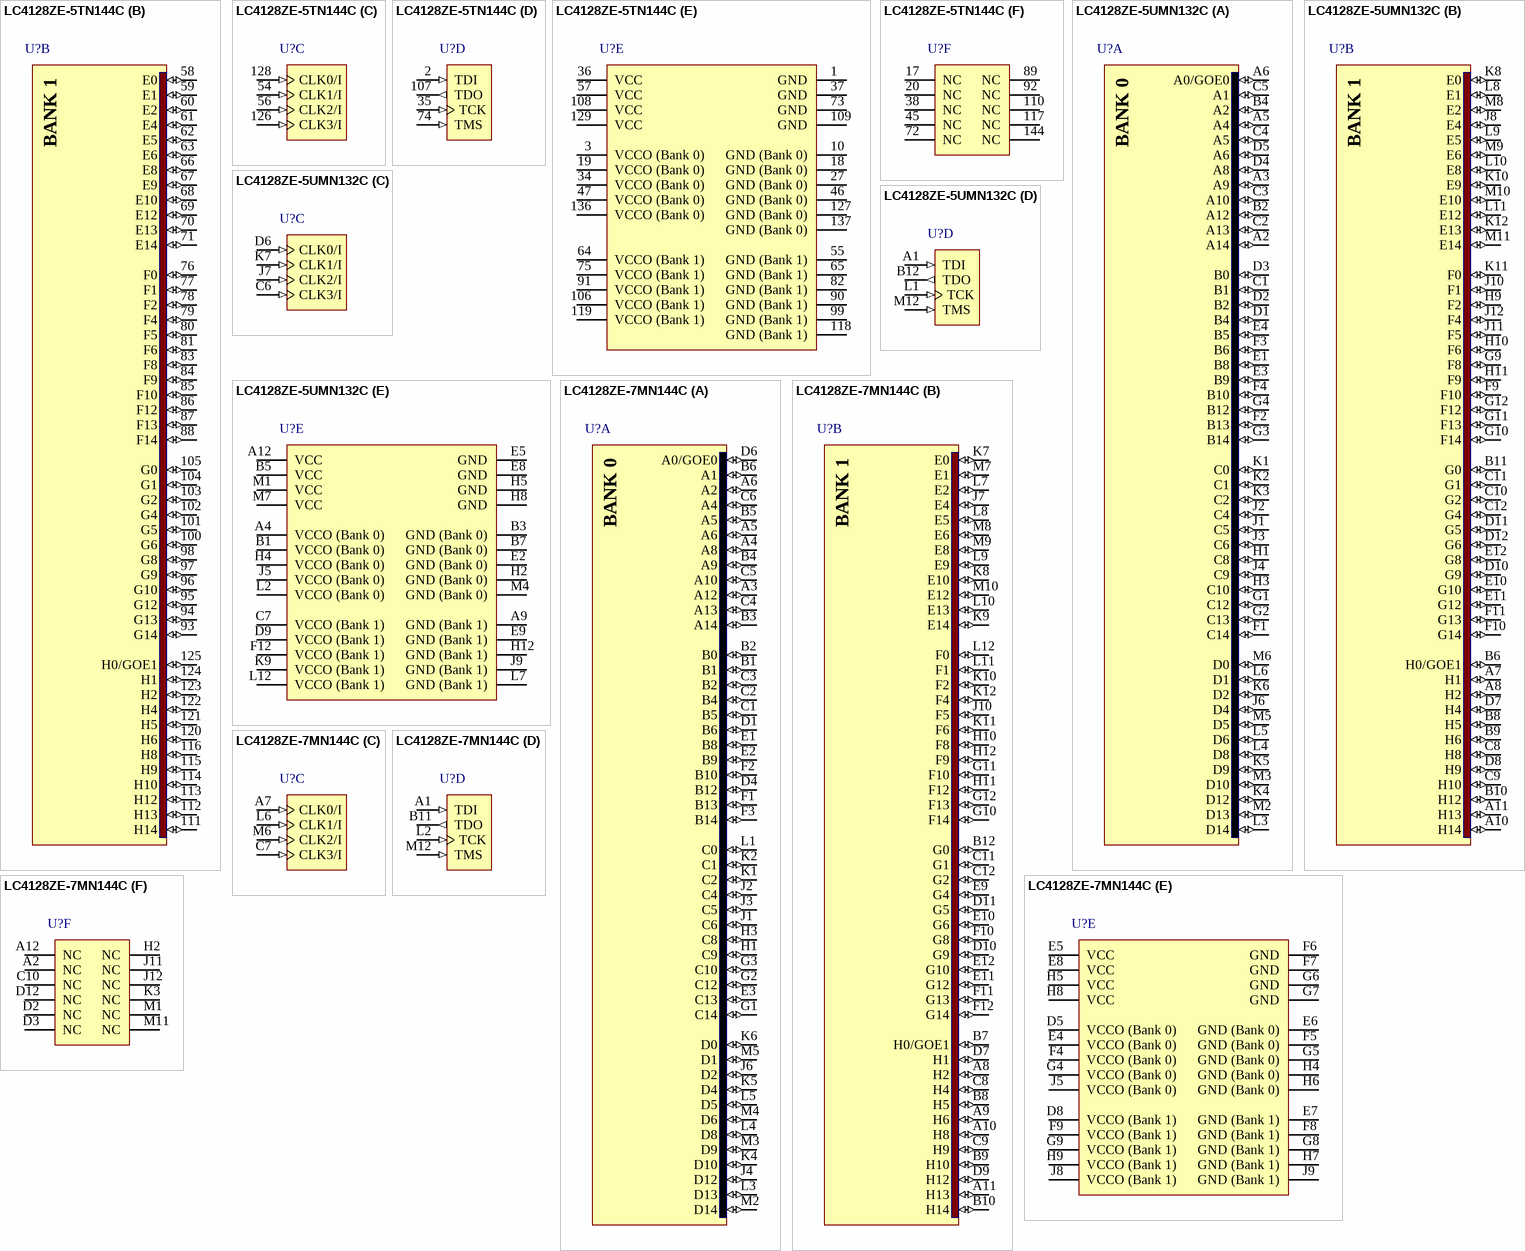
[diagram p8: symbols LC4128ZE-5TN144C to LC4128ZE-7MN144C]

## LC4128ZE-5TN144C
designator U?
ispMACH 4000ZE Ultra Low Power PLD, 1.8V, 96 User I/Os, 144-Pin TQFP, 5.8ns, Commercial Grade, Pb-Free; DatasheetVersion: ver01.4, May-2009; PackageVersion: ver02.8, Jul-2011; PackageReference: TQFP144; PackageDescription: 144-Pin Thin Quad Flat Pack (TQFP144); Code_JEDEC: MS-026-BFB; ComponentLink1Description: Manufacturer URL; ComponentLink1URL: http://www.latticesemi.com/; ComponentLink2Description: Datasheet; ComponentLink2URL: http://www.latticesemi.com/documents/DS1022.pdf; ComponentLink3Description: Package Specification; ComponentLink3URL: http://www.latticesemi.com/lit/docs/package/pkg.pdf
footprint TQFP144_N (Thin QFP, 144-Leads, Body 20x20mm, Pitch 0.5mm, IPC Medium Density)
footprint TQFP144_L (Thin QFP, 144-Leads, Body 20x20mm, Pitch 0.5mm, IPC High Density)
footprint TQFP144_M (Thin QFP, 144-Leads, Body 20x20mm, Pitch 0.5mm, IPC Low Density)
part A pins: 4 B0 (io), 5 B1 (io), 6 B2 (io), 7 B4 (io), 8 B5 (io), 9 B6 (io), 11 B8 (io), 12 B9 (io), 13 B10 (io), 14 B12 (io), 15 B13 (io), 16 B14 (io), 21 C14 (io), 22 C13 (io), 23 C12 (io), 24 C10 (io), 25 C9 (io), 26 C8 (io), 28 C6 (io), 29 C5 (io), 30 C4 (io), 31 C2 (io), 32 C1 (io), 33 C0 (io), 39 D14 (io), 40 D13 (io), 41 D12 (io), 42 D10 (io), 43 D9 (io), 44 D8 (io), 48 D6 (io), 49 D5 (io), 50 D4 (io), 51 D2 (io), 52 D1 (io), 53 D0 (io), 130 A0/GOE0 (io), 131 A1 (io), 132 A2 (io), 133 A4 (io), 134 A5 (io), 135 A6 (io), 138 A8 (io), 139 A9 (io), 140 A10 (io), 141 A12 (io), 142 A13 (io), 143 A14 (io)
part B pins: 58 E0 (io), 59 E1 (io), 60 E2 (io), 61 E4 (io), 62 E5 (io), 63 E6 (io), 66 E8 (io), 67 E9 (io), 68 E10 (io), 69 E12 (io), 70 E13 (io), 71 E14 (io), 76 F0 (io), 77 F1 (io), 78 F2 (io), 79 F4 (io), 80 F5 (io), 81 F6 (io), 83 F8 (io), 84 F9 (io), 85 F10 (io), 86 F12 (io), 87 F13 (io), 88 F14 (io), 93 G14 (io), 94 G13 (io), 95 G12 (io), 96 G10 (io), 97 G9 (io), 98 G8 (io), 100 G6 (io), 101 G5 (io), 102 G4 (io), 103 G2 (io), 104 G1 (io), 105 G0 (io), 111 H14 (io), 112 H13 (io), 113 H12 (io), 114 H10 (io), 115 H9 (io), 116 H8 (io), 120 H6 (io), 121 H5 (io), 122 H4 (io), 123 H2 (io), 124 H1 (io), 125 H0/GOE1 (io)
part C pins: 54 CLK1/I (in), 56 CLK2/I (in), 126 CLK3/I (in), 128 CLK0/I (in)
part D pins: 2 TDI (in), 35 TCK (in), 74 TMS (in), 107 TDO (out)
part E pins: 1 GND (power), 3 VCCO (Bank 0) (power), 10 GND (Bank 0) (power), 18 GND (Bank 0) (power), 19 VCCO (Bank 0) (power), 27 GND (Bank 0) (power), 34 VCCO (Bank 0) (power), 36 VCC (power), 37 GND (power), 46 GND (Bank 0) (power), 47 VCCO (Bank 0) (power), 55 GND (Bank 1) (power), 57 VCC (power), 64 VCCO (Bank 1) (power), 65 GND (Bank 1) (power), 73 GND (power), 75 VCCO (Bank 1) (power), 82 GND (Bank 1) (power), 90 GND (Bank 1) (power), 91 VCCO (Bank 1) (power), 99 GND (Bank 1) (power), 106 VCCO (Bank 1) (power), 108 VCC (power), 109 GND (power), 118 GND (Bank 1) (power), 119 VCCO (Bank 1) (power), 127 GND (Bank 0) (power), 129 VCC (power), 136 VCCO (Bank 0) (power), 137 GND (Bank 0) (power)
part F pins: 17 NC, 20 NC, 38 NC, 45 NC, 72 NC, 89 NC, 92 NC, 110 NC, 117 NC, 144 NC
part A text: BANK 0
part B text: BANK 1

## LC4128ZE-5UMN132C
designator U?
ispMACH 4000ZE Ultra Low Power PLD, 1.8V, 96 User I/Os, 132-Pin ucBGA, 5.8ns, Commercial Grade, Pb-Free; DatasheetVersion: ver01.4, May-2009; PackageVersion: ver02.6, Nov-2010; PackageReference: ucBGA132; PackageDescription: 132-Ball ucBGA Package, 6 x 6 mm Body, 0.4 mm Pitch; ComponentLink1Description: Manufacturer URL; ComponentLink1URL: http://www.latticesemi.com/; ComponentLink2Description: Datasheet; ComponentLink2URL: http://www.latticesemi.com/documents/DS1022.pdf; ComponentLink3Description: Package Specification; ComponentLink3URL: http://www.latticesemi.com/lit/docs/package/pkg.pdf
footprint ucBGA132 (BGA, 132-Leads, Body 6x6mm, Pitch 0.4mm)
part A pins: A2 A14 (io), A3 A9 (io), A5 A4 (io), A6 A0/GOE0 (io), B2 A12 (io), B4 A2 (io), C1 B1 (io), C2 A13 (io), C3 A10 (io), C4 A5 (io), C5 A1 (io), D1 B4 (io), D2 B2 (io), D3 B0 (io), D4 A8 (io), D5 A6 (io), E1 B8 (io), E3 B9 (io), E4 B5 (io), F1 C14 (io), F2 B13 (io), F3 B6 (io), F4 B10 (io), G1 C12 (io), G2 C13 (io), G3 B14 (io), G4 B12 (io), H1 C8 (io), H3 C10 (io), J1 C5 (io), J2 C4 (io), J3 C6 (io), J4 C9 (io), J6 D4 (io), K1 C0 (io), K2 C1 (io), K3 C2 (io), K4 D12 (io), K5 D9 (io), K6 D2 (io), L3 D14 (io), L4 D8 (io), L5 D6 (io), L6 D1 (io), M2 D13 (io), M3 D10 (io), M5 D5 (io), M6 D0 (io)
part B pins: A7 H1 (io), A8 H2 (io), A10 H14 (io), A11 H13 (io), B6 H0/GOE1 (io), B8 H5 (io), B9 H6 (io), B10 H12 (io), B11 G0 (io), C8 H8 (io), C9 H10 (io), C10 G2 (io), C11 G1 (io), C12 G4 (io), D7 H4 (io), D8 H9 (io), D10 G9 (io), D11 G5 (io), D12 G6 (io), E10 G10 (io), E11 G12 (io), E12 G8 (io), F9 F10 (io), F10 G14 (io), F11 G13 (io), G9 F8 (io), G10 F14 (io), G11 F13 (io), G12 F12 (io), H9 F2 (io), H10 F6 (io), H11 F9 (io), J8 E4 (io), J10 F1 (io), J11 F5 (io), J12 F4 (io), K8 E0 (io), K10 E9 (io), K11 F0 (io), K12 E13 (io), L8 E1 (io), L9 E5 (io), L10 E8 (io), L11 E12 (io), M8 E2 (io), M9 E6 (io), M10 E10 (io), M11 E14 (io)
part C pins: C6 CLK3/I (in), D6 CLK0/I (in), J7 CLK2/I (in), K7 CLK1/I (in)
part D pins: A1 TDI (in), B12 TDO (out), L1 TCK (in), M12 TMS (in)
part E pins: A4 VCCO (Bank 0) (power), A9 GND (Bank 1) (power), A12 VCC (power), B1 VCCO (Bank 0) (power), B3 GND (Bank 0) (power), B5 VCC (power), B7 GND (Bank 0) (power), C7 VCCO (Bank 1) (power), D9 VCCO (Bank 1) (power), E2 GND (Bank 0) (power), E5 GND (power), E8 GND (power), E9 GND (Bank 1) (power), F12 VCCO (Bank 1) (power), H2 GND (Bank 0) (power), H4 VCCO (Bank 0) (power), H5 GND (power), H8 GND (power), H12 GND (Bank 1) (power), J5 VCCO (Bank 0) (power), J9 GND (Bank 1) (power), K9 VCCO (Bank 1) (power), L2 VCCO (Bank 0) (power), L7 GND (Bank 1) (power), L12 VCCO (Bank 1) (power), M1 VCC (power), M4 GND (Bank 0) (power), M7 VCC (power)
part A text: BANK 0
part B text: BANK 1

## LC4128ZE-7MN144C
designator U?
ispMACH 4000ZE Ultra Low Power PLD, 1.8V, 96 User I/Os, 144-Pin csBGA, 7.5ns, Commercial Grade, Pb-Free; DatasheetVersion: ver01.4, May-2009; PackageVersion: ver02.6, Nov-2010; PackageReference: csBGA144; PackageDescription: 144-Ball Chip Scale Ball Grid Array (csBGA144); ComponentLink1Description: Manufacturer URL; ComponentLink1URL: http://www.latticesemi.com/; ComponentLink2Description: Datasheet; ComponentLink2URL: http://www.latticesemi.com/documents/DS1022.pdf; ComponentLink3Description: Package Specification; ComponentLink3URL: http://www.latticesemi.com/lit/docs/package/pkg.pdf
footprint csBGA144 (BGA, 144-Leads, Body 7x7mm, Pitch 0.5mm)
part A pins: A3 A12 (io), A4 A8 (io), A5 A6 (io), A6 A2 (io), B1 (io), B2 B0 (io), B3 A14 (io), B4 A9 (io), B5 A5 (io), B6 A1 (io), C1 B5 (io), C2 B4 (io), C3 B2 (io), C4 A13 (io), C5 A10 (io), C6 A4 (io), D1 B6 (io), D4 B12 (io), D6 A0/GOE0 (io), E1 B8 (io), E2 B9 (io), E3 C13 (io), F1 B13 (io), F2 B10 (io), F3 B14 (io), G1 C14 (io), G2 C12 (io), G3 C10 (io), H1 C9 (io), H3 C8 (io), J1 C6 (io), J2 C4 (io), J3 C5 (io), J4 D12 (io), J6 D2 (io), K1 C2 (io), K2 C1 (io), K4 D10 (io), K5 D4 (io), K6 D0 (io), L1 C0 (io), L3 D13 (io), L4 D8 (io), L5 D5 (io), M2 D14 (io), M3 D9 (io), M4 D6 (io), M5 D1 (io)
part B pins: A8 H2 (io), A9 H6 (io), A10 H8 (io), A11 H13 (io), B7 H0/GOE1 (io), B8 H5 (io), B9 H10 (io), B10 H14 (io), B12 G0 (io), C8 H4 (io), C9 H9 (io), C11 G1 (io), C12 G2 (io), D7 H1 (io), D9 H12 (io), D10 G9 (io), D11 G5 (io), E9 G4 (io), E10 G6 (io), E11 G12 (io), E12 G10 (io), F10 G8 (io), F11 G13 (io), F12 G14 (io), G10 F14 (io), G11 F10 (io), G12 F13 (io), H10 F8 (io), H11 F12 (io), H12 F9 (io), J7 E4 (io), J10 F5 (io), K7 E0 (io), K8 E10 (io), K9 E14 (io), K10 F2 (io), K11 F6 (io), K12 F4 (io), L7 E2 (io), L8 E5 (io), L9 E9 (io), L10 E13 (io), L11 F1 (io), L12 F0 (io), M7 E1 (io), M8 E6 (io), M9 E8 (io), M10 E12 (io)
part C pins: A7 CLK0/I (in), C7 CLK3/I (in), L6 CLK1/I (in), M6 CLK2/I (in)
part D pins: A1 TDI (in), B11 TDO (out), L2 TCK (in), M12 TMS (in)
part E pins: D5 VCCO (Bank 0) (power), D8 VCCO (Bank 1) (power), E4 VCCO (Bank 0) (power), E5 VCC (power), E6 GND (Bank 0) (power), E7 GND (Bank 1) (power), E8 VCC (power), F4 VCCO (Bank 0) (power), F5 GND (Bank 0) (power), F6 GND (power), F7 GND (power), F8 GND (Bank 1) (power), F9 VCCO (Bank 1) (power), G4 VCCO (Bank 0) (power), G5 GND (Bank 0) (power), G6 GND (power), G7 GND (power), G8 GND (Bank 1) (power), G9 VCCO (Bank 1) (power), H4 GND (Bank 0) (power), H5 VCC (power), H6 GND (Bank 0) (power), H7 GND (Bank 1) (power), H8 VCC (power), H9 VCCO (Bank 1) (power), J5 VCCO (Bank 0) (power), J8 VCCO (Bank 1) (power), J9 GND (Bank 1) (power)
part F pins: A2 NC, A12 NC, C10 NC, D2 NC, D3 NC, D12 NC, H2 NC, J11 NC, J12 NC, K3 NC, M1 NC, M11 NC
part A text: BANK 0
part B text: BANK 1

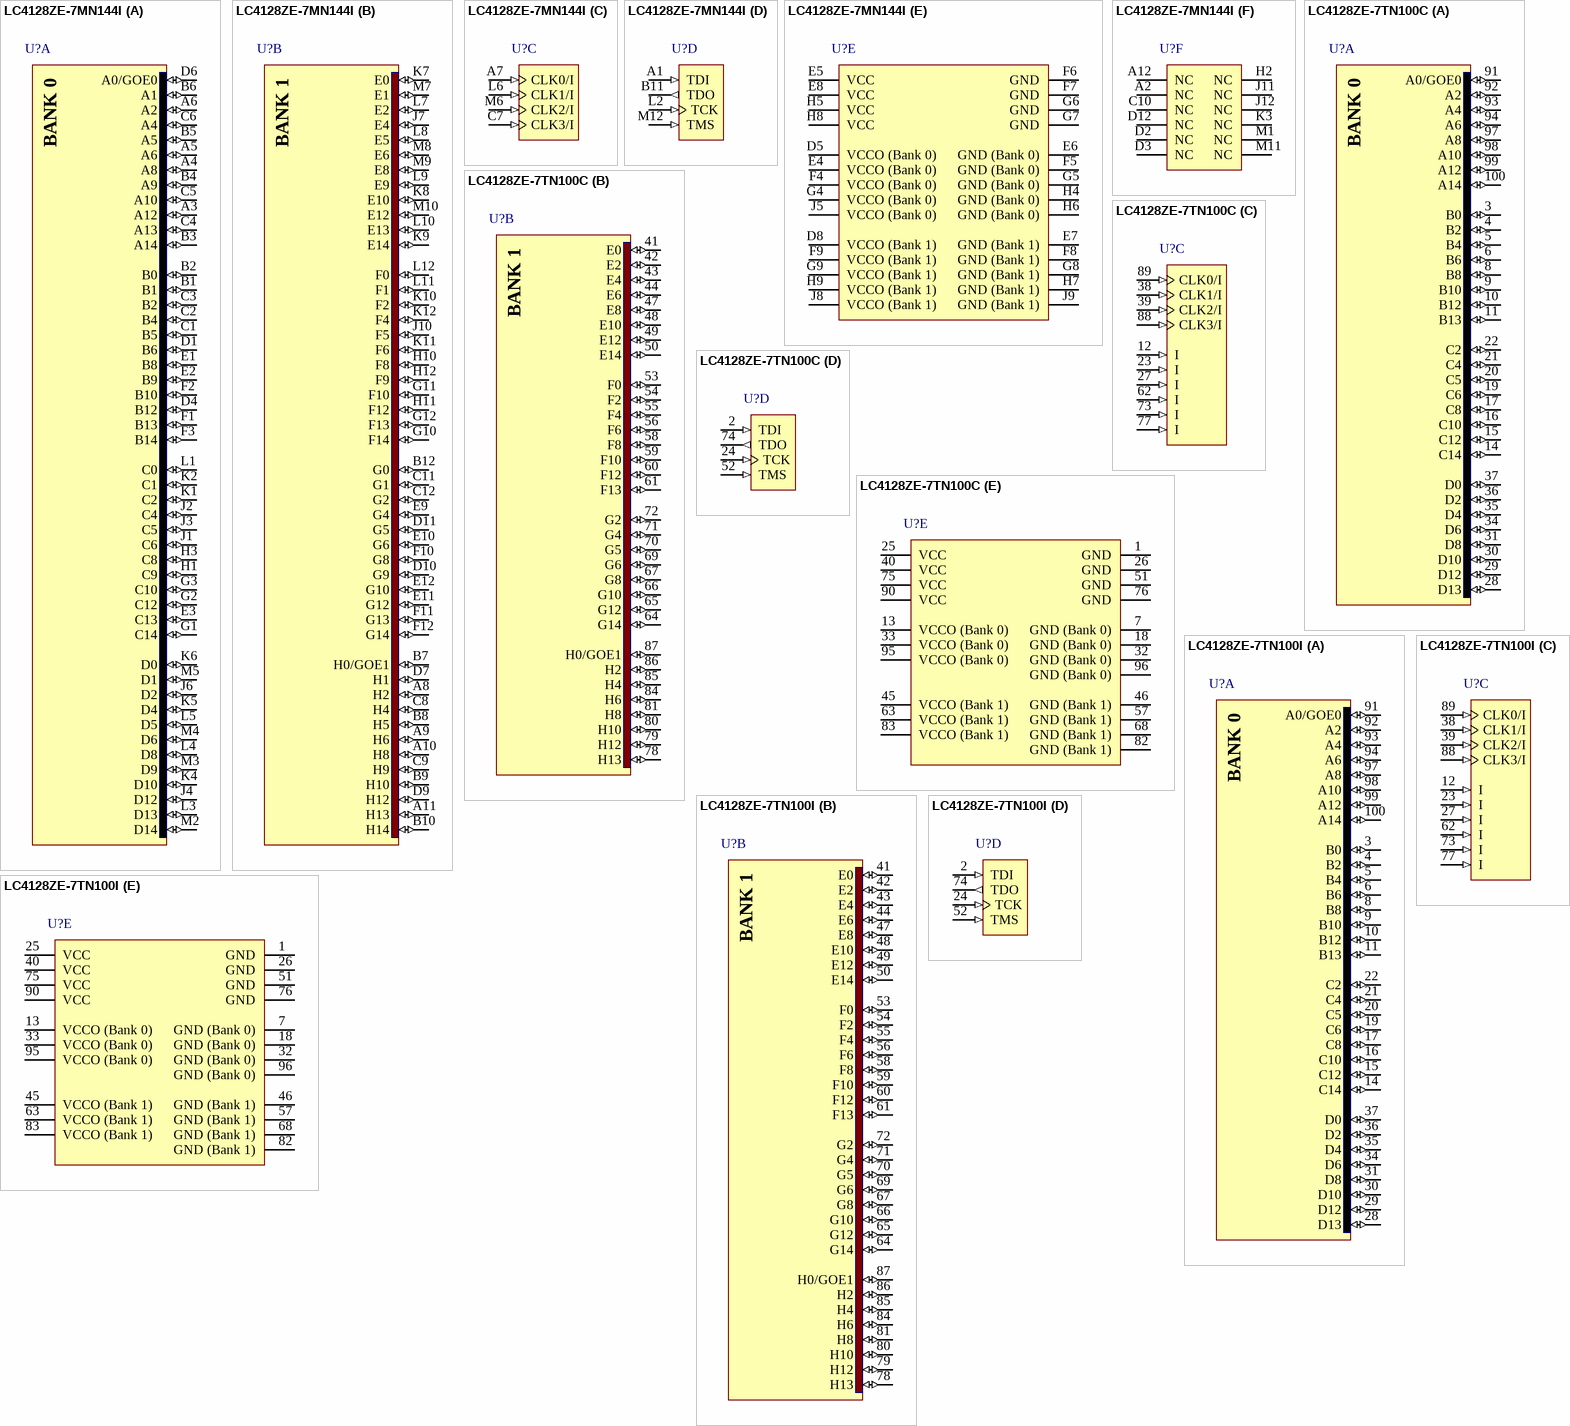
[diagram p9: symbols LC4128ZE-7MN144I to LC4128ZE-7TN100I]

## LC4128ZE-7MN144I
designator U?
ispMACH 4000ZE Ultra Low Power PLD, 1.8V, 96 User I/Os, 144-Pin csBGA, 7.5ns, Industrial Grade, Pb-Free; DatasheetVersion: ver01.4, May-2009; PackageVersion: ver02.6, Nov-2010; PackageReference: csBGA144; PackageDescription: 144-Ball Chip Scale Ball Grid Array (csBGA144); ComponentLink1Description: Manufacturer URL; ComponentLink1URL: http://www.latticesemi.com/; ComponentLink2Description: Datasheet; ComponentLink2URL: http://www.latticesemi.com/documents/DS1022.pdf; ComponentLink3Description: Package Specification; ComponentLink3URL: http://www.latticesemi.com/lit/docs/package/pkg.pdf
footprint csBGA144 (BGA, 144-Leads, Body 7x7mm, Pitch 0.5mm)
part A pins: A3 A12 (io), A4 A8 (io), A5 A6 (io), A6 A2 (io), B1 (io), B2 B0 (io), B3 A14 (io), B4 A9 (io), B5 A5 (io), B6 A1 (io), C1 B5 (io), C2 B4 (io), C3 B2 (io), C4 A13 (io), C5 A10 (io), C6 A4 (io), D1 B6 (io), D4 B12 (io), D6 A0/GOE0 (io), E1 B8 (io), E2 B9 (io), E3 C13 (io), F1 B13 (io), F2 B10 (io), F3 B14 (io), G1 C14 (io), G2 C12 (io), G3 C10 (io), H1 C9 (io), H3 C8 (io), J1 C6 (io), J2 C4 (io), J3 C5 (io), J4 D12 (io), J6 D2 (io), K1 C2 (io), K2 C1 (io), K4 D10 (io), K5 D4 (io), K6 D0 (io), L1 C0 (io), L3 D13 (io), L4 D8 (io), L5 D5 (io), M2 D14 (io), M3 D9 (io), M4 D6 (io), M5 D1 (io)
part B pins: A8 H2 (io), A9 H6 (io), A10 H8 (io), A11 H13 (io), B7 H0/GOE1 (io), B8 H5 (io), B9 H10 (io), B10 H14 (io), B12 G0 (io), C8 H4 (io), C9 H9 (io), C11 G1 (io), C12 G2 (io), D7 H1 (io), D9 H12 (io), D10 G9 (io), D11 G5 (io), E9 G4 (io), E10 G6 (io), E11 G12 (io), E12 G10 (io), F10 G8 (io), F11 G13 (io), F12 G14 (io), G10 F14 (io), G11 F10 (io), G12 F13 (io), H10 F8 (io), H11 F12 (io), H12 F9 (io), J7 E4 (io), J10 F5 (io), K7 E0 (io), K8 E10 (io), K9 E14 (io), K10 F2 (io), K11 F6 (io), K12 F4 (io), L7 E2 (io), L8 E5 (io), L9 E9 (io), L10 E13 (io), L11 F1 (io), L12 F0 (io), M7 E1 (io), M8 E6 (io), M9 E8 (io), M10 E12 (io)
part C pins: A7 CLK0/I (in), C7 CLK3/I (in), L6 CLK1/I (in), M6 CLK2/I (in)
part D pins: A1 TDI (in), B11 TDO (out), L2 TCK (in), M12 TMS (in)
part E pins: D5 VCCO (Bank 0) (power), D8 VCCO (Bank 1) (power), E4 VCCO (Bank 0) (power), E5 VCC (power), E6 GND (Bank 0) (power), E7 GND (Bank 1) (power), E8 VCC (power), F4 VCCO (Bank 0) (power), F5 GND (Bank 0) (power), F6 GND (power), F7 GND (power), F8 GND (Bank 1) (power), F9 VCCO (Bank 1) (power), G4 VCCO (Bank 0) (power), G5 GND (Bank 0) (power), G6 GND (power), G7 GND (power), G8 GND (Bank 1) (power), G9 VCCO (Bank 1) (power), H4 GND (Bank 0) (power), H5 VCC (power), H6 GND (Bank 0) (power), H7 GND (Bank 1) (power), H8 VCC (power), H9 VCCO (Bank 1) (power), J5 VCCO (Bank 0) (power), J8 VCCO (Bank 1) (power), J9 GND (Bank 1) (power)
part F pins: A2 NC, A12 NC, C10 NC, D2 NC, D3 NC, D12 NC, H2 NC, J11 NC, J12 NC, K3 NC, M1 NC, M11 NC
part A text: BANK 0
part B text: BANK 1

## LC4128ZE-7TN100C
designator U?
ispMACH 4000ZE Ultra Low Power PLD, 1.8V, 64 User I/Os, 100-Pin TQFP, 7.5ns, Commercial Grade, Pb-Free; DatasheetVersion: ver01.4, May-2009; PackageVersion: ver02.8, Jul-2011; PackageReference: TQFP100; PackageDescription: 100-Pin Thin Quad Flat Pack (TQFP100); Code_JEDEC: MS-026-BED; ComponentLink1Description: Manufacturer URL; ComponentLink1URL: http://www.latticesemi.com/; ComponentLink2Description: Datasheet; ComponentLink2URL: http://www.latticesemi.com/documents/DS1022.pdf; ComponentLink3Description: Package Specification; ComponentLink3URL: http://www.latticesemi.com/lit/docs/package/pkg.pdf
footprint TQFP100_N (Thin QFP, 100-Leads, Body 14x14mm, Pitch 0.5mm, IPC Medium Density)
footprint TQFP100_L (Thin QFP, 100-Leads, Body 14x14mm, Pitch 0.5mm, IPC High Density)
footprint TQFP100_M (Thin QFP, 100-Leads, Body 14x14mm, Pitch 0.5mm, IPC Low Density)
part A pins: 3 B0 (io), 4 B2 (io), 5 B4 (io), 6 B6 (io), 8 B8 (io), 9 B10 (io), 10 B12 (io), 11 B13 (io), 14 C14 (io), 15 C12 (io), 16 C10 (io), 17 C8 (io), 19 C6 (io), 20 C5 (io), 21 C4 (io), 22 C2 (io), 28 D13 (io), 29 D12 (io), 30 D10 (io), 31 D8 (io), 34 D6 (io), 35 D4 (io), 36 D2 (io), 37 D0 (io), 91 A0/GOE0 (io), 92 A2 (io), 93 A4 (io), 94 A6 (io), 97 A8 (io), 98 A10 (io), 99 A12 (io), 100 A14 (io)
part B pins: 41 E0 (io), 42 E2 (io), 43 E4 (io), 44 E6 (io), 47 E8 (io), 48 E10 (io), 49 E12 (io), 50 E14 (io), 53 F0 (io), 54 F2 (io), 55 F4 (io), 56 F6 (io), 58 F8 (io), 59 F10 (io), 60 F12 (io), 61 F13 (io), 64 G14 (io), 65 G12 (io), 66 G10 (io), 67 G8 (io), 69 G6 (io), 70 G5 (io), 71 G4 (io), 72 G2 (io), 78 H13 (io), 79 H12 (io), 80 H10 (io), 81 H8 (io), 84 H6 (io), 85 H4 (io), 86 H2 (io), 87 H0/GOE1 (io)
part C pins: 12 I (in), 23 I (in), 27 I (in), 38 CLK1/I (in), 39 CLK2/I (in), 62 I (in), 73 I (in), 77 I (in), 88 CLK3/I (in), 89 CLK0/I (in)
part D pins: 2 TDI (in), 24 TCK (in), 52 TMS (in), 74 TDO (out)
part E pins: 1 GND (power), 7 GND (Bank 0) (power), 13 VCCO (Bank 0) (power), 18 GND (Bank 0) (power), 25 VCC (power), 26 GND (power), 32 GND (Bank 0) (power), 33 VCCO (Bank 0) (power), 40 VCC (power), 45 VCCO (Bank 1) (power), 46 GND (Bank 1) (power), 51 GND (power), 57 GND (Bank 1) (power), 63 VCCO (Bank 1) (power), 68 GND (Bank 1) (power), 75 VCC (power), 76 GND (power), 82 GND (Bank 1) (power), 83 VCCO (Bank 1) (power), 90 VCC (power), 95 VCCO (Bank 0) (power), 96 GND (Bank 0) (power)
part A text: BANK 0
part B text: BANK 1

## LC4128ZE-7TN100I
designator U?
ispMACH 4000ZE Ultra Low Power PLD, 1.8V, 64 User I/Os, 100-Pin TQFP, 7.5ns, Industrial Grade, Pb-Free; DatasheetVersion: ver01.4, May-2009; PackageVersion: ver02.8, Jul-2011; PackageReference: TQFP100; PackageDescription: 100-Pin Thin Quad Flat Pack (TQFP100); Code_JEDEC: MS-026-BED; ComponentLink1Description: Manufacturer URL; ComponentLink1URL: http://www.latticesemi.com/; ComponentLink2Description: Datasheet; ComponentLink2URL: http://www.latticesemi.com/documents/DS1022.pdf; ComponentLink3Description: Package Specification; ComponentLink3URL: http://www.latticesemi.com/lit/docs/package/pkg.pdf
footprint TQFP100_N (Thin QFP, 100-Leads, Body 14x14mm, Pitch 0.5mm, IPC Medium Density)
footprint TQFP100_L (Thin QFP, 100-Leads, Body 14x14mm, Pitch 0.5mm, IPC High Density)
footprint TQFP100_M (Thin QFP, 100-Leads, Body 14x14mm, Pitch 0.5mm, IPC Low Density)
part A pins: 3 B0 (io), 4 B2 (io), 5 B4 (io), 6 B6 (io), 8 B8 (io), 9 B10 (io), 10 B12 (io), 11 B13 (io), 14 C14 (io), 15 C12 (io), 16 C10 (io), 17 C8 (io), 19 C6 (io), 20 C5 (io), 21 C4 (io), 22 C2 (io), 28 D13 (io), 29 D12 (io), 30 D10 (io), 31 D8 (io), 34 D6 (io), 35 D4 (io), 36 D2 (io), 37 D0 (io), 91 A0/GOE0 (io), 92 A2 (io), 93 A4 (io), 94 A6 (io), 97 A8 (io), 98 A10 (io), 99 A12 (io), 100 A14 (io)
part B pins: 41 E0 (io), 42 E2 (io), 43 E4 (io), 44 E6 (io), 47 E8 (io), 48 E10 (io), 49 E12 (io), 50 E14 (io), 53 F0 (io), 54 F2 (io), 55 F4 (io), 56 F6 (io), 58 F8 (io), 59 F10 (io), 60 F12 (io), 61 F13 (io), 64 G14 (io), 65 G12 (io), 66 G10 (io), 67 G8 (io), 69 G6 (io), 70 G5 (io), 71 G4 (io), 72 G2 (io), 78 H13 (io), 79 H12 (io), 80 H10 (io), 81 H8 (io), 84 H6 (io), 85 H4 (io), 86 H2 (io), 87 H0/GOE1 (io)
part C pins: 12 I (in), 23 I (in), 27 I (in), 38 CLK1/I (in), 39 CLK2/I (in), 62 I (in), 73 I (in), 77 I (in), 88 CLK3/I (in), 89 CLK0/I (in)
part D pins: 2 TDI (in), 24 TCK (in), 52 TMS (in), 74 TDO (out)
part E pins: 1 GND (power), 7 GND (Bank 0) (power), 13 VCCO (Bank 0) (power), 18 GND (Bank 0) (power), 25 VCC (power), 26 GND (power), 32 GND (Bank 0) (power), 33 VCCO (Bank 0) (power), 40 VCC (power), 45 VCCO (Bank 1) (power), 46 GND (Bank 1) (power), 51 GND (power), 57 GND (Bank 1) (power), 63 VCCO (Bank 1) (power), 68 GND (Bank 1) (power), 75 VCC (power), 76 GND (power), 82 GND (Bank 1) (power), 83 VCCO (Bank 1) (power), 90 VCC (power), 95 VCCO (Bank 0) (power), 96 GND (Bank 0) (power)
part A text: BANK 0
part B text: BANK 1

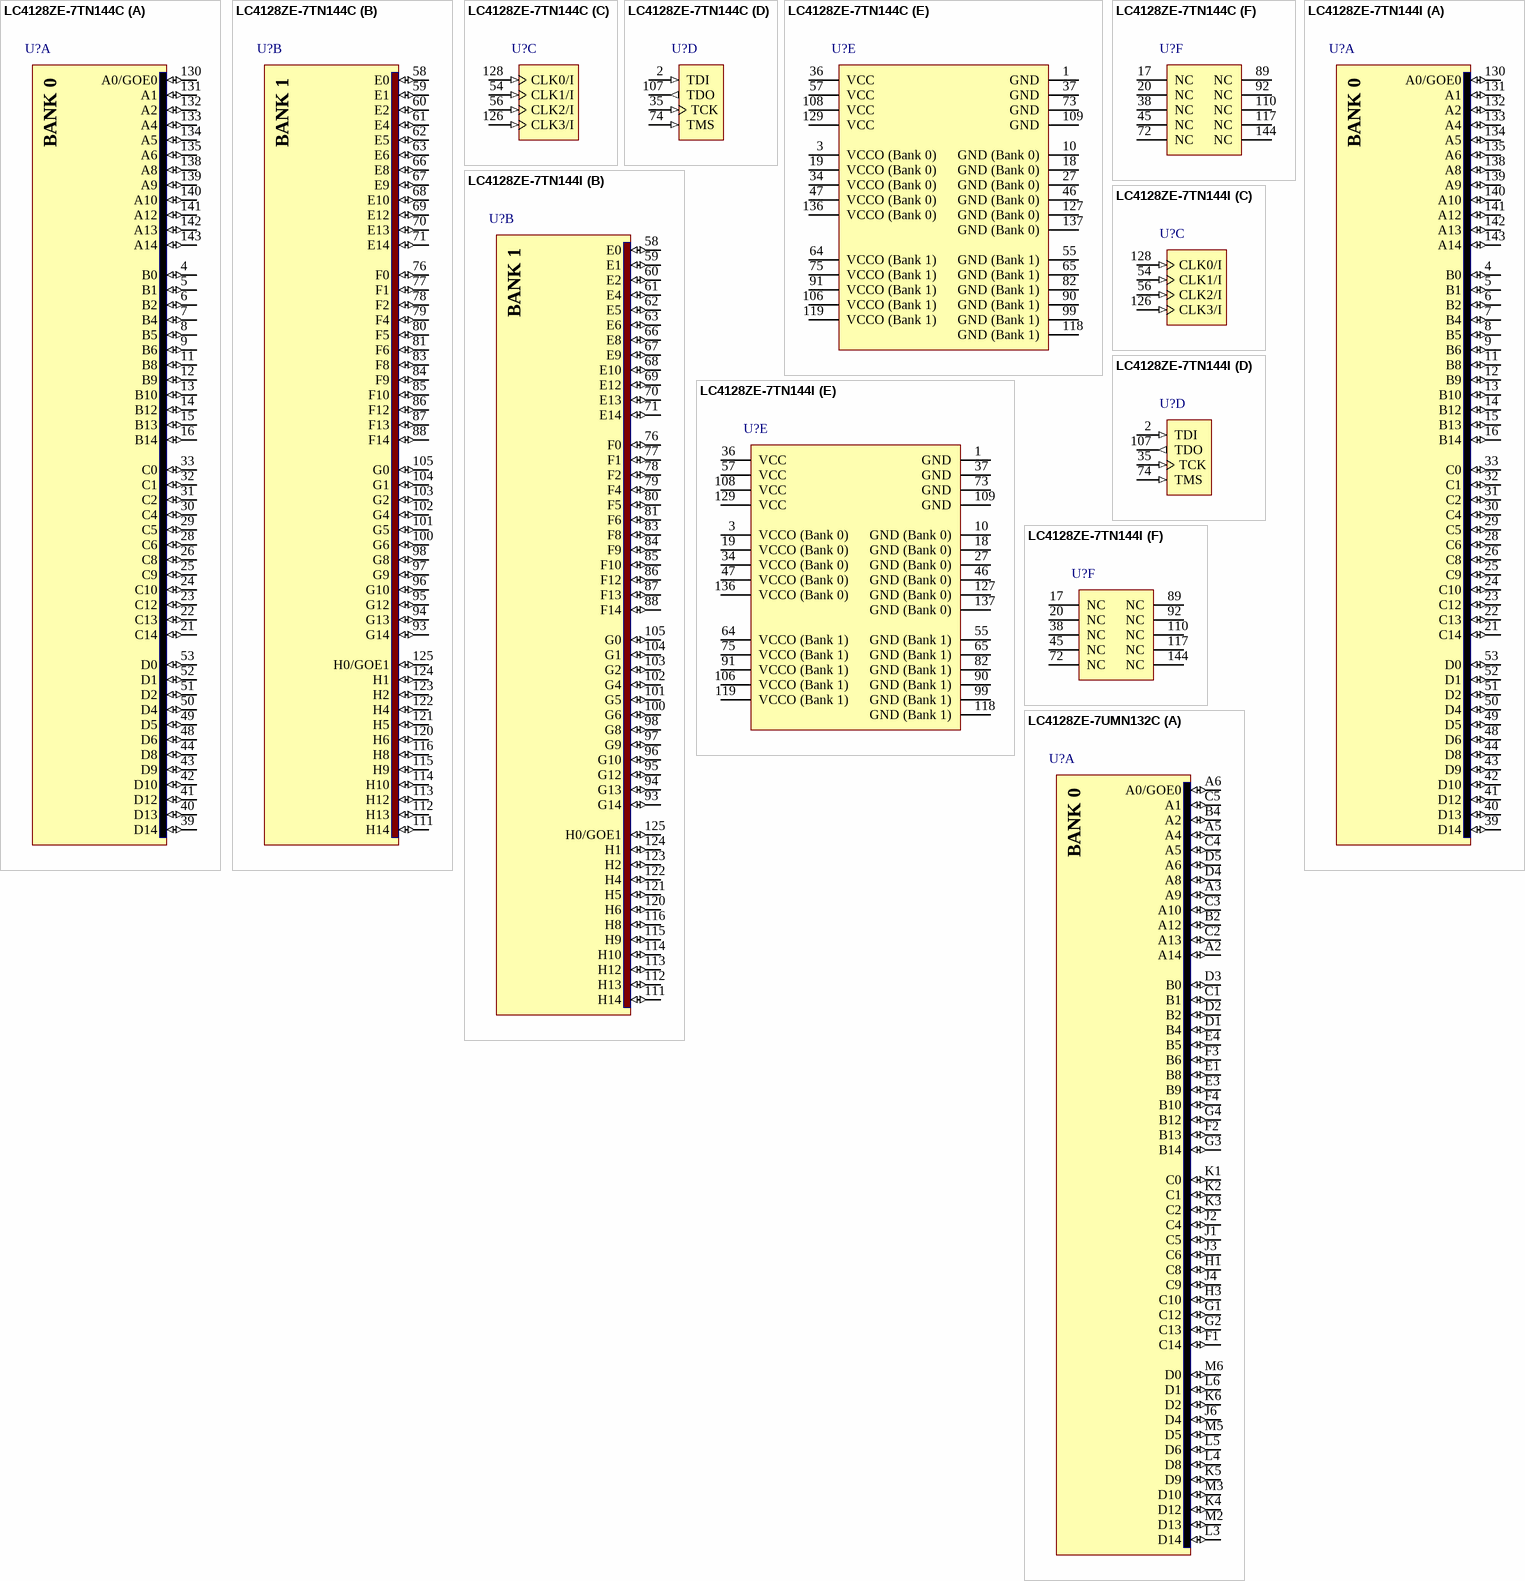
[diagram p10: symbols LC4128ZE-7TN144C to LC4128ZE-7UMN132C]

## LC4128ZE-7TN144C
designator U?
ispMACH 4000ZE Ultra Low Power PLD, 1.8V, 96 User I/Os, 144-Pin TQFP, 7.5ns, Commercial Grade, Pb-Free; DatasheetVersion: ver01.4, May-2009; PackageVersion: ver02.8, Jul-2011; PackageReference: TQFP144; PackageDescription: 144-Pin Thin Quad Flat Pack (TQFP144); Code_JEDEC: MS-026-BFB; ComponentLink1Description: Manufacturer URL; ComponentLink1URL: http://www.latticesemi.com/; ComponentLink2Description: Datasheet; ComponentLink2URL: http://www.latticesemi.com/documents/DS1022.pdf; ComponentLink3Description: Package Specification; ComponentLink3URL: http://www.latticesemi.com/lit/docs/package/pkg.pdf
footprint TQFP144_N (Thin QFP, 144-Leads, Body 20x20mm, Pitch 0.5mm, IPC Medium Density)
footprint TQFP144_L (Thin QFP, 144-Leads, Body 20x20mm, Pitch 0.5mm, IPC High Density)
footprint TQFP144_M (Thin QFP, 144-Leads, Body 20x20mm, Pitch 0.5mm, IPC Low Density)
part A pins: 4 B0 (io), 5 B1 (io), 6 B2 (io), 7 B4 (io), 8 B5 (io), 9 B6 (io), 11 B8 (io), 12 B9 (io), 13 B10 (io), 14 B12 (io), 15 B13 (io), 16 B14 (io), 21 C14 (io), 22 C13 (io), 23 C12 (io), 24 C10 (io), 25 C9 (io), 26 C8 (io), 28 C6 (io), 29 C5 (io), 30 C4 (io), 31 C2 (io), 32 C1 (io), 33 C0 (io), 39 D14 (io), 40 D13 (io), 41 D12 (io), 42 D10 (io), 43 D9 (io), 44 D8 (io), 48 D6 (io), 49 D5 (io), 50 D4 (io), 51 D2 (io), 52 D1 (io), 53 D0 (io), 130 A0/GOE0 (io), 131 A1 (io), 132 A2 (io), 133 A4 (io), 134 A5 (io), 135 A6 (io), 138 A8 (io), 139 A9 (io), 140 A10 (io), 141 A12 (io), 142 A13 (io), 143 A14 (io)
part B pins: 58 E0 (io), 59 E1 (io), 60 E2 (io), 61 E4 (io), 62 E5 (io), 63 E6 (io), 66 E8 (io), 67 E9 (io), 68 E10 (io), 69 E12 (io), 70 E13 (io), 71 E14 (io), 76 F0 (io), 77 F1 (io), 78 F2 (io), 79 F4 (io), 80 F5 (io), 81 F6 (io), 83 F8 (io), 84 F9 (io), 85 F10 (io), 86 F12 (io), 87 F13 (io), 88 F14 (io), 93 G14 (io), 94 G13 (io), 95 G12 (io), 96 G10 (io), 97 G9 (io), 98 G8 (io), 100 G6 (io), 101 G5 (io), 102 G4 (io), 103 G2 (io), 104 G1 (io), 105 G0 (io), 111 H14 (io), 112 H13 (io), 113 H12 (io), 114 H10 (io), 115 H9 (io), 116 H8 (io), 120 H6 (io), 121 H5 (io), 122 H4 (io), 123 H2 (io), 124 H1 (io), 125 H0/GOE1 (io)
part C pins: 54 CLK1/I (in), 56 CLK2/I (in), 126 CLK3/I (in), 128 CLK0/I (in)
part D pins: 2 TDI (in), 35 TCK (in), 74 TMS (in), 107 TDO (out)
part E pins: 1 GND (power), 3 VCCO (Bank 0) (power), 10 GND (Bank 0) (power), 18 GND (Bank 0) (power), 19 VCCO (Bank 0) (power), 27 GND (Bank 0) (power), 34 VCCO (Bank 0) (power), 36 VCC (power), 37 GND (power), 46 GND (Bank 0) (power), 47 VCCO (Bank 0) (power), 55 GND (Bank 1) (power), 57 VCC (power), 64 VCCO (Bank 1) (power), 65 GND (Bank 1) (power), 73 GND (power), 75 VCCO (Bank 1) (power), 82 GND (Bank 1) (power), 90 GND (Bank 1) (power), 91 VCCO (Bank 1) (power), 99 GND (Bank 1) (power), 106 VCCO (Bank 1) (power), 108 VCC (power), 109 GND (power), 118 GND (Bank 1) (power), 119 VCCO (Bank 1) (power), 127 GND (Bank 0) (power), 129 VCC (power), 136 VCCO (Bank 0) (power), 137 GND (Bank 0) (power)
part F pins: 17 NC, 20 NC, 38 NC, 45 NC, 72 NC, 89 NC, 92 NC, 110 NC, 117 NC, 144 NC
part A text: BANK 0
part B text: BANK 1

## LC4128ZE-7TN144I
designator U?
ispMACH 4000ZE Ultra Low Power PLD, 1.8V, 96 User I/Os, 144-Pin TQFP, 7.5ns, Industrial Grade, Pb-Free; DatasheetVersion: ver01.4, May-2009; PackageVersion: ver02.8, Jul-2011; PackageReference: TQFP144; PackageDescription: 144-Pin Thin Quad Flat Pack (TQFP144); Code_JEDEC: MS-026-BFB; ComponentLink1Description: Manufacturer URL; ComponentLink1URL: http://www.latticesemi.com/; ComponentLink2Description: Datasheet; ComponentLink2URL: http://www.latticesemi.com/documents/DS1022.pdf; ComponentLink3Description: Package Specification; ComponentLink3URL: http://www.latticesemi.com/lit/docs/package/pkg.pdf
footprint TQFP144_N (Thin QFP, 144-Leads, Body 20x20mm, Pitch 0.5mm, IPC Medium Density)
footprint TQFP144_L (Thin QFP, 144-Leads, Body 20x20mm, Pitch 0.5mm, IPC High Density)
footprint TQFP144_M (Thin QFP, 144-Leads, Body 20x20mm, Pitch 0.5mm, IPC Low Density)
part A pins: 4 B0 (io), 5 B1 (io), 6 B2 (io), 7 B4 (io), 8 B5 (io), 9 B6 (io), 11 B8 (io), 12 B9 (io), 13 B10 (io), 14 B12 (io), 15 B13 (io), 16 B14 (io), 21 C14 (io), 22 C13 (io), 23 C12 (io), 24 C10 (io), 25 C9 (io), 26 C8 (io), 28 C6 (io), 29 C5 (io), 30 C4 (io), 31 C2 (io), 32 C1 (io), 33 C0 (io), 39 D14 (io), 40 D13 (io), 41 D12 (io), 42 D10 (io), 43 D9 (io), 44 D8 (io), 48 D6 (io), 49 D5 (io), 50 D4 (io), 51 D2 (io), 52 D1 (io), 53 D0 (io), 130 A0/GOE0 (io), 131 A1 (io), 132 A2 (io), 133 A4 (io), 134 A5 (io), 135 A6 (io), 138 A8 (io), 139 A9 (io), 140 A10 (io), 141 A12 (io), 142 A13 (io), 143 A14 (io)
part B pins: 58 E0 (io), 59 E1 (io), 60 E2 (io), 61 E4 (io), 62 E5 (io), 63 E6 (io), 66 E8 (io), 67 E9 (io), 68 E10 (io), 69 E12 (io), 70 E13 (io), 71 E14 (io), 76 F0 (io), 77 F1 (io), 78 F2 (io), 79 F4 (io), 80 F5 (io), 81 F6 (io), 83 F8 (io), 84 F9 (io), 85 F10 (io), 86 F12 (io), 87 F13 (io), 88 F14 (io), 93 G14 (io), 94 G13 (io), 95 G12 (io), 96 G10 (io), 97 G9 (io), 98 G8 (io), 100 G6 (io), 101 G5 (io), 102 G4 (io), 103 G2 (io), 104 G1 (io), 105 G0 (io), 111 H14 (io), 112 H13 (io), 113 H12 (io), 114 H10 (io), 115 H9 (io), 116 H8 (io), 120 H6 (io), 121 H5 (io), 122 H4 (io), 123 H2 (io), 124 H1 (io), 125 H0/GOE1 (io)
part C pins: 54 CLK1/I (in), 56 CLK2/I (in), 126 CLK3/I (in), 128 CLK0/I (in)
part D pins: 2 TDI (in), 35 TCK (in), 74 TMS (in), 107 TDO (out)
part E pins: 1 GND (power), 3 VCCO (Bank 0) (power), 10 GND (Bank 0) (power), 18 GND (Bank 0) (power), 19 VCCO (Bank 0) (power), 27 GND (Bank 0) (power), 34 VCCO (Bank 0) (power), 36 VCC (power), 37 GND (power), 46 GND (Bank 0) (power), 47 VCCO (Bank 0) (power), 55 GND (Bank 1) (power), 57 VCC (power), 64 VCCO (Bank 1) (power), 65 GND (Bank 1) (power), 73 GND (power), 75 VCCO (Bank 1) (power), 82 GND (Bank 1) (power), 90 GND (Bank 1) (power), 91 VCCO (Bank 1) (power), 99 GND (Bank 1) (power), 106 VCCO (Bank 1) (power), 108 VCC (power), 109 GND (power), 118 GND (Bank 1) (power), 119 VCCO (Bank 1) (power), 127 GND (Bank 0) (power), 129 VCC (power), 136 VCCO (Bank 0) (power), 137 GND (Bank 0) (power)
part F pins: 17 NC, 20 NC, 38 NC, 45 NC, 72 NC, 89 NC, 92 NC, 110 NC, 117 NC, 144 NC
part A text: BANK 0
part B text: BANK 1

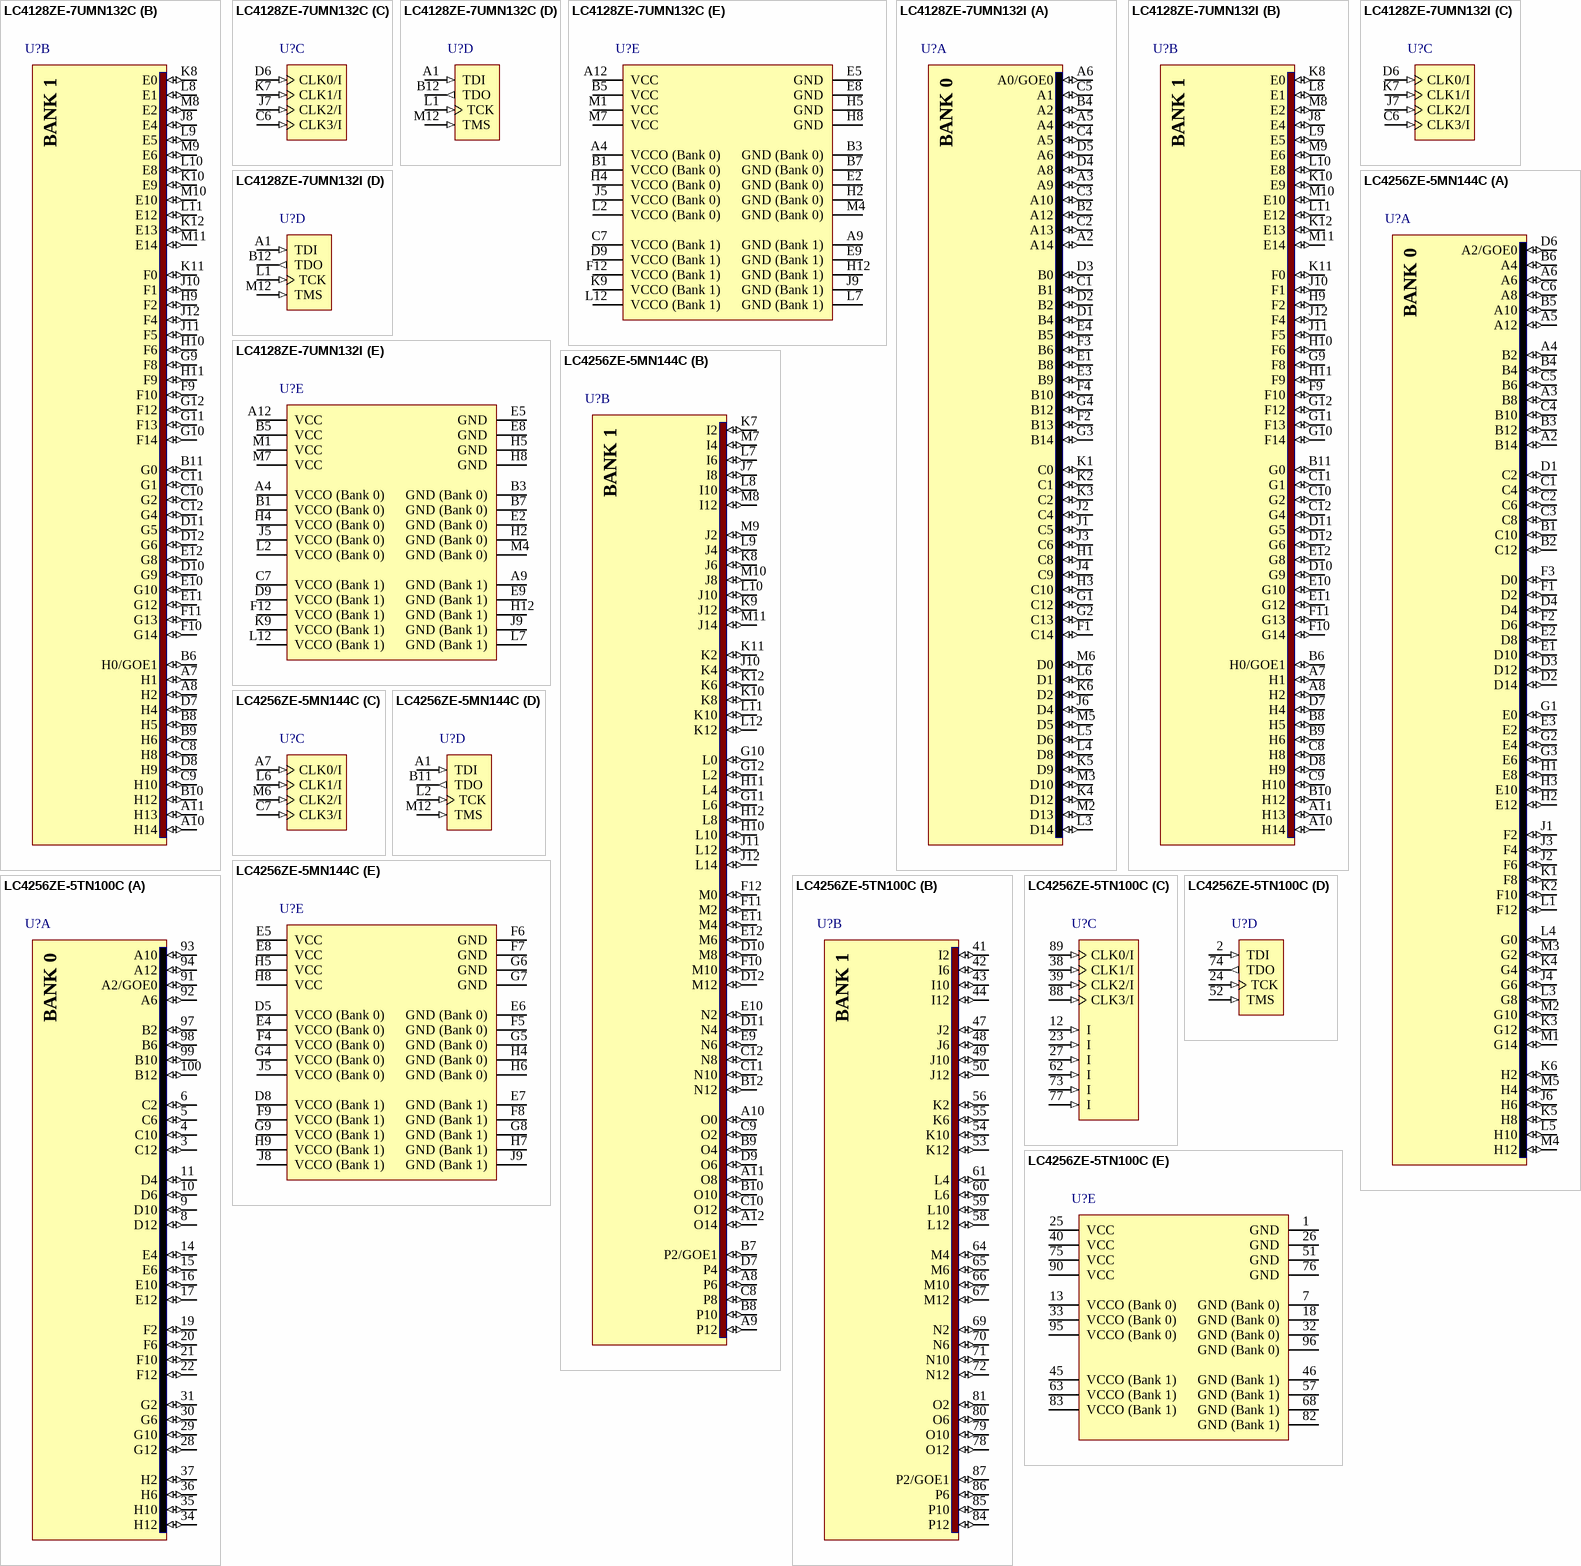
[diagram p11: symbols LC4128ZE-7UMN132C to LC4256ZE-5TN100C]

## LC4128ZE-7UMN132C
designator U?
ispMACH 4000ZE Ultra Low Power PLD, 1.8V, 96 User I/Os, 132-Pin ucBGA, 7.5ns, Commercial Grade, Pb-Free; DatasheetVersion: ver01.4, May-2009; PackageVersion: ver02.6, Nov-2010; PackageReference: ucBGA132; PackageDescription: 132-Ball ucBGA Package, 6 x 6 mm Body, 0.4 mm Pitch; ComponentLink1Description: Manufacturer URL; ComponentLink1URL: http://www.latticesemi.com/; ComponentLink2Description: Datasheet; ComponentLink2URL: http://www.latticesemi.com/documents/DS1022.pdf; ComponentLink3Description: Package Specification; ComponentLink3URL: http://www.latticesemi.com/lit/docs/package/pkg.pdf
footprint ucBGA132 (BGA, 132-Leads, Body 6x6mm, Pitch 0.4mm)
part A pins: A2 A14 (io), A3 A9 (io), A5 A4 (io), A6 A0/GOE0 (io), B2 A12 (io), B4 A2 (io), C1 B1 (io), C2 A13 (io), C3 A10 (io), C4 A5 (io), C5 A1 (io), D1 B4 (io), D2 B2 (io), D3 B0 (io), D4 A8 (io), D5 A6 (io), E1 B8 (io), E3 B9 (io), E4 B5 (io), F1 C14 (io), F2 B13 (io), F3 B6 (io), F4 B10 (io), G1 C12 (io), G2 C13 (io), G3 B14 (io), G4 B12 (io), H1 C8 (io), H3 C10 (io), J1 C5 (io), J2 C4 (io), J3 C6 (io), J4 C9 (io), J6 D4 (io), K1 C0 (io), K2 C1 (io), K3 C2 (io), K4 D12 (io), K5 D9 (io), K6 D2 (io), L3 D14 (io), L4 D8 (io), L5 D6 (io), L6 D1 (io), M2 D13 (io), M3 D10 (io), M5 D5 (io), M6 D0 (io)
part B pins: A7 H1 (io), A8 H2 (io), A10 H14 (io), A11 H13 (io), B6 H0/GOE1 (io), B8 H5 (io), B9 H6 (io), B10 H12 (io), B11 G0 (io), C8 H8 (io), C9 H10 (io), C10 G2 (io), C11 G1 (io), C12 G4 (io), D7 H4 (io), D8 H9 (io), D10 G9 (io), D11 G5 (io), D12 G6 (io), E10 G10 (io), E11 G12 (io), E12 G8 (io), F9 F10 (io), F10 G14 (io), F11 G13 (io), G9 F8 (io), G10 F14 (io), G11 F13 (io), G12 F12 (io), H9 F2 (io), H10 F6 (io), H11 F9 (io), J8 E4 (io), J10 F1 (io), J11 F5 (io), J12 F4 (io), K8 E0 (io), K10 E9 (io), K11 F0 (io), K12 E13 (io), L8 E1 (io), L9 E5 (io), L10 E8 (io), L11 E12 (io), M8 E2 (io), M9 E6 (io), M10 E10 (io), M11 E14 (io)
part C pins: C6 CLK3/I (in), D6 CLK0/I (in), J7 CLK2/I (in), K7 CLK1/I (in)
part D pins: A1 TDI (in), B12 TDO (out), L1 TCK (in), M12 TMS (in)
part E pins: A4 VCCO (Bank 0) (power), A9 GND (Bank 1) (power), A12 VCC (power), B1 VCCO (Bank 0) (power), B3 GND (Bank 0) (power), B5 VCC (power), B7 GND (Bank 0) (power), C7 VCCO (Bank 1) (power), D9 VCCO (Bank 1) (power), E2 GND (Bank 0) (power), E5 GND (power), E8 GND (power), E9 GND (Bank 1) (power), F12 VCCO (Bank 1) (power), H2 GND (Bank 0) (power), H4 VCCO (Bank 0) (power), H5 GND (power), H8 GND (power), H12 GND (Bank 1) (power), J5 VCCO (Bank 0) (power), J9 GND (Bank 1) (power), K9 VCCO (Bank 1) (power), L2 VCCO (Bank 0) (power), L7 GND (Bank 1) (power), L12 VCCO (Bank 1) (power), M1 VCC (power), M4 GND (Bank 0) (power), M7 VCC (power)
part A text: BANK 0
part B text: BANK 1